# Altium schematic symbol library ic-mcu.SchLib: 24 symbols
Pins are listed as number, name and electrical type; pins without a type are passive.

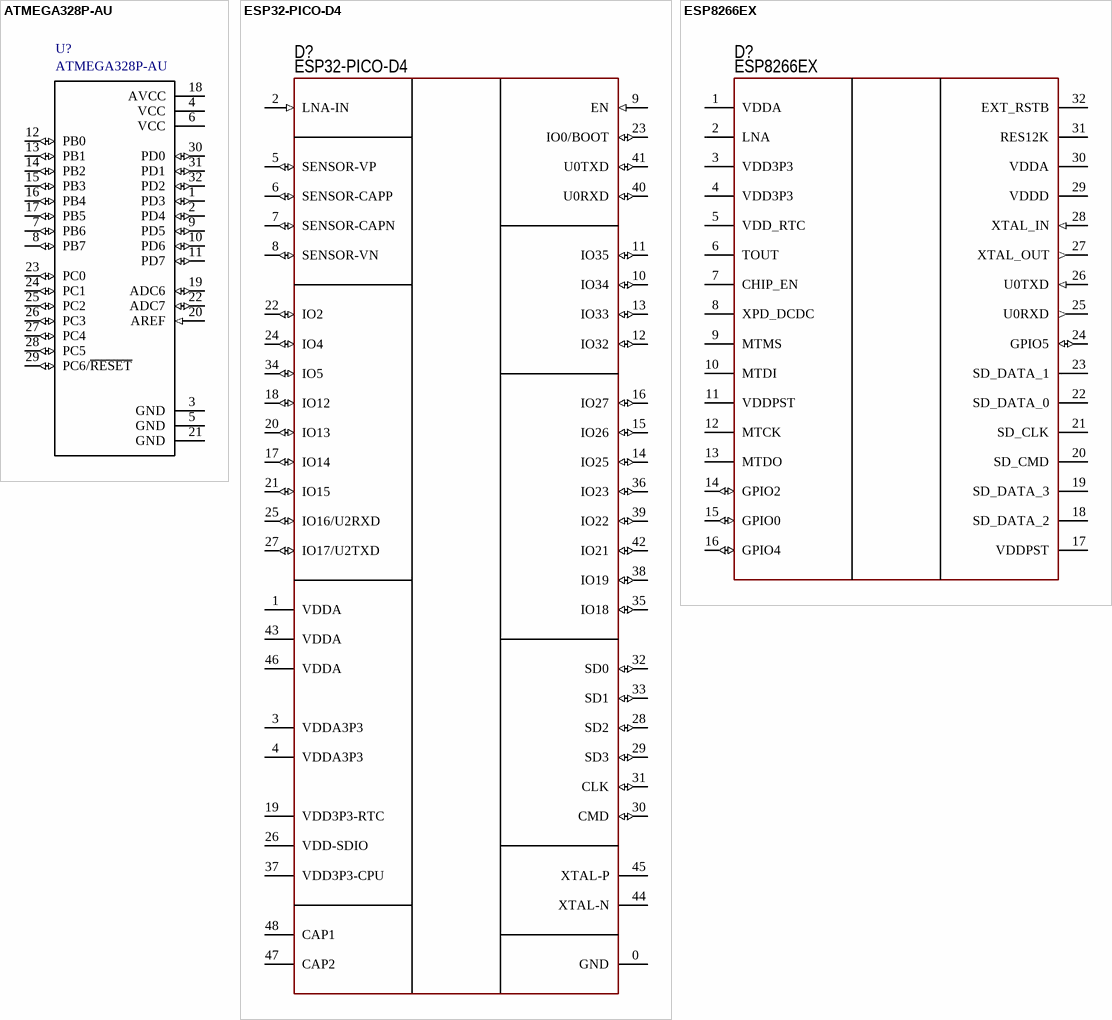
[diagram p0: symbols ATMEGA328P-AU to ESP8266EX]

## ATMEGA328P-AU
designator U?
MICROCONTROLLER MCU, 8 BIT, ATMEGA, 20MH; MICROCONTROLLER MCU, 8 BIT, ATMEGA, 20MHZ, TQFP-32; Controller Family/Series:ATmega; CPU Speed:20MHz; Program Memory Size:32KB; RAM Memory Size:2KB; No. of Pins:32Pins; MCU Case Style:TQFP; No. of I/O's:23I/O's; P; MF: Microchip Technology; MP: ATMEGA328PAU; SnapEDA_Link: https://www.snapeda.com/parts/ATMEGA328PAU/Microchip+Technology/view-part/?ref=snap; Package: None; Value: *; Check_prices: https://www.snapeda.com/parts/ATMEGA328PAU/Microchip+Technology/view-part/?ref=eda
footprint QFP80P900X900X120-32N
pins: 1 PD3 (io), 2 PD4 (io), 3 GND (power), 4 VCC (power), 5 GND (power), 6 VCC (power), 7 PB6 (io), 8 PB7 (io), 9 PD5 (io), 10 PD6 (io), 11 PD7 (io), 12 PB0 (io), 13 PB1 (io), 14 PB2 (io), 15 PB3 (io), 16 PB4 (io), 17 PB5 (io), 18 AVCC (power), 19 ADC6 (io), 20 AREF (in), 21 GND (power), 22 ADC7 (io), 23 PC0 (io), 24 PC1 (io), 25 PC2 (io), 26 PC3 (io), 27 PC4 (io), 28 PC5 (io), 29 PC6/~{RESET} (io), 30 PD0 (io), 31 PD1 (io), 32 PD2 (io)

## ESP32-PICO-D4
designator D?  PartNumber: ESP32-PICO-D4
Wi-Fi+BT; Manufacturer: Espressif Systems; ValueManufacturerPartNumber: IC RF transceiver, 802.11b/g/n + Bluetooth v4.2, 2.4GHz, 32-Bit, Xtensa LX6, 4Mb, 520KB, 2.7...3.6V, -40...+85°C, 48-LGA; Supply: 2.7...3.6V; CoreSpeed: 600 DMIPS; CoreSize: 32-Bit; MemoryROM: 4Mb; MemoryRAM: 520KB; CoreProcessor: Xtensa LX6; Frequency: 2.4GHz; TypeProtocol: 802.11b/g/n + Bluetooth v4.2; HelpURL: https://www.digikey.com/product-detail/en/espressif-systems/ESP32-PICO-D4/1904-1029-1-ND/9381738; Package: 48-LGA; ComponentType: IC RF transceiver; Temperature: -40...+85°C
footprint 48-LGA (7x7) (7x7 mm, pitch 0.5 mm, power pad)
pins: 0 GND, 1 VDDA, 2 LNA-IN (in), 3 VDDA3P3, 4 VDDA3P3, 5 SENSOR-VP (io), 6 SENSOR-CAPP (io), 7 SENSOR-CAPN (io), 8 SENSOR-VN (io), 9 EN (in), 10 IO34 (io), 11 IO35 (io), 12 IO32 (io), 13 IO33 (io), 14 IO25 (io), 15 IO26 (io), 16 IO27 (io), 17 IO14 (io), 18 IO12 (io), 19 VDD3P3-RTC, 20 IO13 (io), 21 IO15 (io), 22 IO2 (io), 23 IO0/BOOT (io), 24 IO4 (io), 25 IO16/U2RXD (io), 26 VDD-SDIO, 27 IO17/U2TXD (io), 28 SD2 (io), 29 SD3 (io), 30 CMD (io), 31 CLK (io), 32 SD0 (io), 33 SD1 (io), 34 IO5 (io), 35 IO18 (io), 36 IO23 (io), 37 VDD3P3-CPU, 38 IO19 (io), 39 IO22 (io), 40 U0RXD (io), 41 U0TXD (io), 42 IO21 (io), 43 VDDA, 44 XTAL-N, 45 XTAL-P, 46 VDDA, 47 CAP2, 48 CAP1

## ESP8266EX
designator D?  PartNumber: ESP8266EX
Wi-Fi; Manufacturer: Espressif Systems; ValueManufacturerPartNumber: IC RF transceiver, 802.11b/g/n, 2.4GHz, 32-Bit, Cortex-M3, External FLASH, 50KB, 2.5...3.6V, -40...+85°C, 32-VFQFN; Supply: 2.5...3.6V; CoreSpeed: 160 MHz; CoreSize: 32-Bit; MemoryROM: External FLASH; MemoryRAM: 50KB; CoreProcessor: Cortex-M3; Frequency: 2.4GHz; TypeProtocol: 802.11b/g/n; HelpURL: https://www.digikey.com/product-detail/en/espressif-systems/ESP8266EX/1904-1001-1-ND/8028408; Package: 32-VFQFN; ComponentType: IC RF transceiver; Temperature: -40...+85°C
footprint 32-QFN (5x5 mm, pitch 0.5 mm, power pad)
pins: 1 VDDA, 2 LNA, 3 VDD3P3, 4 VDD3P3, 5 VDD_RTC, 6 TOUT, 7 CHIP_EN, 8 XPD_DCDC, 9 MTMS, 10 MTDI, 11 VDDPST, 12 MTCK, 13 MTDO, 14 GPIO2 (io), 15 GPIO0 (io), 16 GPIO4 (io), 17 VDDPST, 18 SD_DATA_2, 19 SD_DATA_3, 20 SD_CMD, 21 SD_CLK, 22 SD_DATA_0, 23 SD_DATA_1, 24 GPIO5 (io), 25 U0RXD (out), 26 U0TXD (in), 27 XTAL_OUT (out), 28 XTAL_IN (in), 29 VDDD, 30 VDDA, 31 RES12K, 32 EXT_RSTB

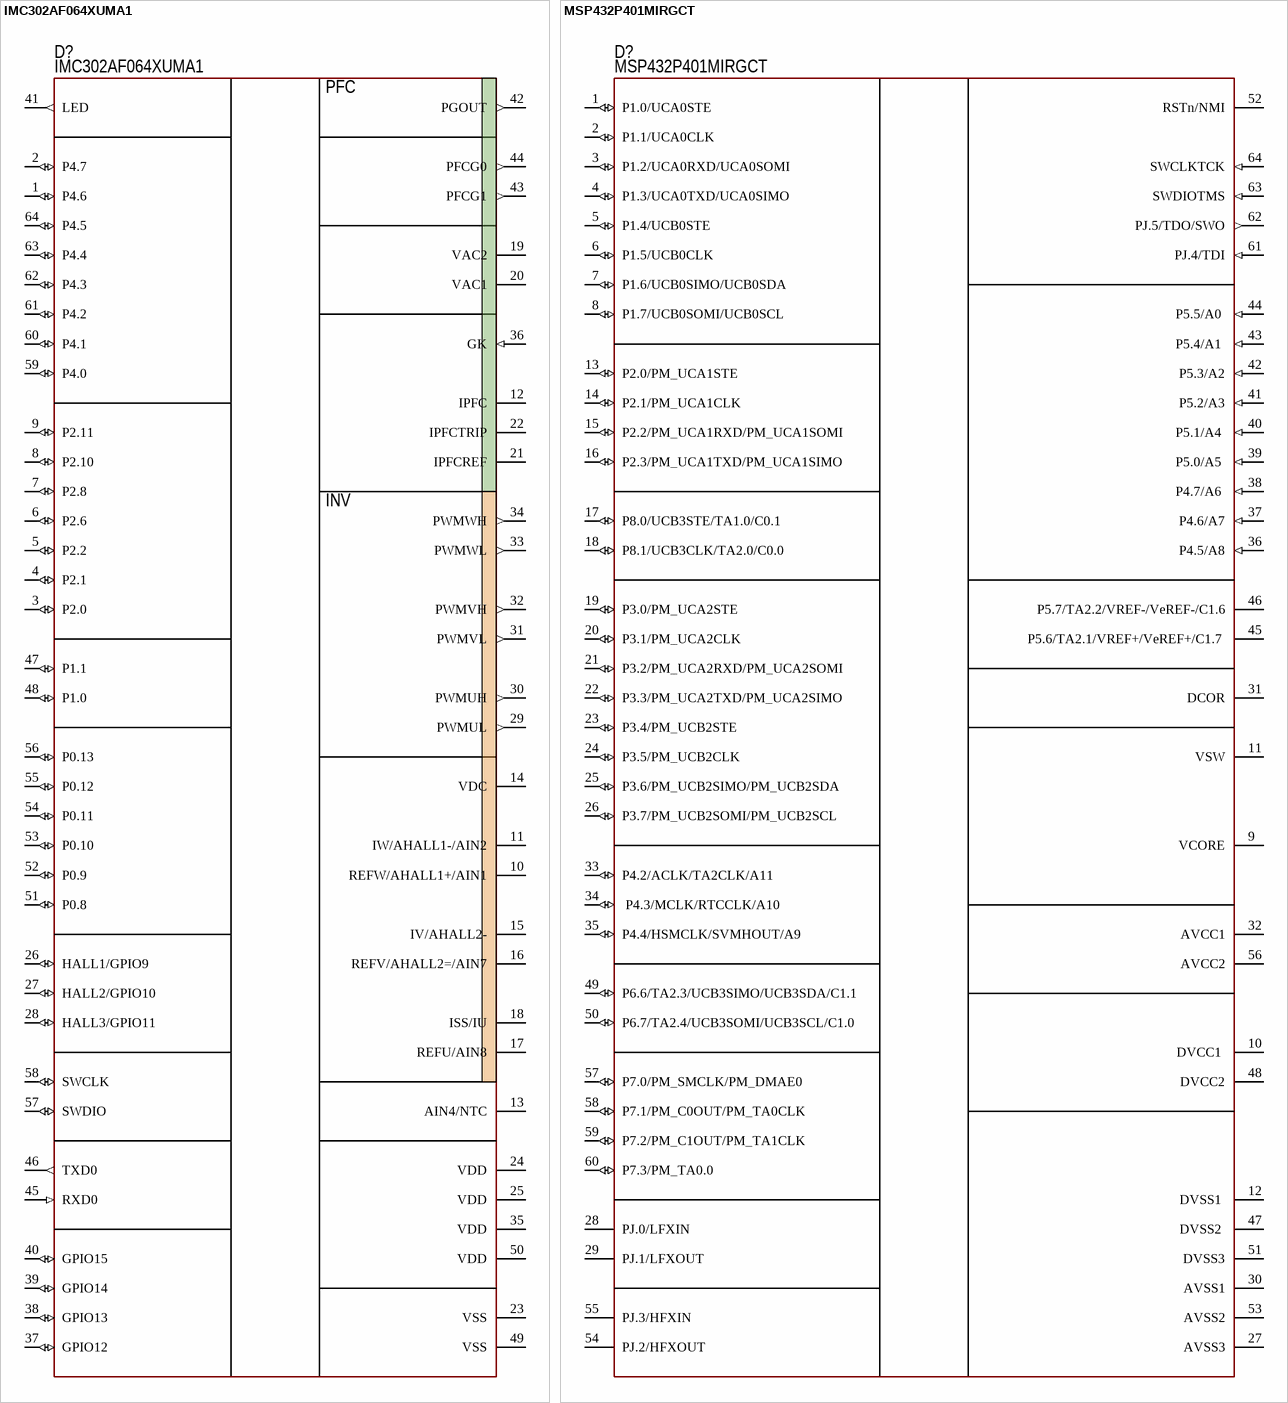
[diagram p1: symbols IMC302AF064XUMA1 to MSP432P401MIRGCT]

## IMC302AF064XUMA1
designator D?  PartNumber: IMC302AF064XUMA1
Cortex-M4; Manufacturer: Infineon; ValueManufacturerPartNumber: IC microcontroller, 32-Bit, Cortex-M0, 96MHz, 128KB, 16KB, 2.7...5.5V, -40...+85°C, LQFP-64; Supply: 2.7...5.5V; Speed: 96MHz; CoreSize: 32-Bit; MemoryROM: 128KB; MemoryRAM: 16KB; CoreProcessor: Cortex-M0; HelpURL: https://ru.mouser.com/ProductDetail/STMicroelectronics/STM32G474VET6?qs=sGAEpiMZZMuoKKEcg8mMKJ29ob8kKavQypc1s7YBx7CUDd%252BMTMV0Hg%3D%3D; Package: LQFP-64; ComponentType: IC microcontroller; Temperature: -40...+85°C
footprint 64-LQFP (Thin QFP, 64-Leads, Body 10x10mm, Pitch 0.5mm, IPC Medium Density)
pins: 1 P4.6 (io), 2 P4.7 (io), 3 P2.0 (io), 4 P2.1 (io), 5 P2.2 (io), 6 P2.6 (io), 7 P2.8 (io), 8 P2.10 (io), 9 P2.11 (io), 10 REFW/AHALL1+/AIN1, 11 IW/AHALL1-/AIN2, 12 IPFC, 13 AIN4/NTC, 14 VDC, 15 IV/AHALL2-, 16 REFV/AHALL2=/AIN7, 17 REFU/AIN8, 18 ISS/IU, 19 VAC2, 20 VAC1, 21 IPFCREF, 22 IPFCTRIP, 23 VSS, 24 VDD, 25 VDD, 26 HALL1/GPIO9 (io), 27 HALL2/GPIO10 (io), 28 HALL3/GPIO11 (io), 29 PWMUL (out), 30 PWMUH (out), 31 PWMVL (out), 32 PWMVH (out), 33 PWMWL (out), 34 PWMWH (out), 35 VDD, 36 GK (in), 37 GPIO12 (io), 38 GPIO13 (io), 39 GPIO14 (io), 40 GPIO15 (io), 41 LED (out), 42 PGOUT (out), 43 PFCG1 (out), 44 PFCG0 (out), 45 RXD0 (in), 46 TXD0 (out), 47 P1.1 (io), 48 P1.0 (io), 49 VSS, 50 VDD, 51 P0.8 (io), 52 P0.9 (io), 53 P0.10 (io), 54 P0.11 (io), 55 P0.12 (io), 56 P0.13 (io), 57 SWDIO (io), 58 SWCLK (io), 59 P4.0 (io), 60 P4.1 (io), 61 P4.2 (io), 62 P4.3 (io), 63 P4.4 (io), 64 P4.5 (io)
text: PFC; INV

## MSP432P401MIRGCT
designator D?  PartNumber: MSP432P401MIRGCT
Cortex-M4F; Manufacturer: STMicroelectronics; ValueManufacturerPartNumber: IC microcontroller, 32-Bit, Cortex-M4F, 48MHz, 128KB, 32KB, 2...3.6V, -40...+85°C, 64-VFQFN; Supply: 2...3.6V; Speed: 48MHz; CoreSize: 32-Bit; MemoryROM: 128KB; MemoryRAM: 32KB; HelpURL: https://www.digikey.com/product-detail/en/texas-instruments/MSP432P401MIRGCT/296-45486-1-ND/6821077; Package: 64-VFQFN; ComponentType: IC microcontroller; Temperature: -40...+85°C; CoreProcessor: Cortex-M4F
footprint 64-QFN (9x9 mm, pitch 0.5 mm, power pad)
pins: 1 P1.0/UCA0STE  (io), 2 P1.1/UCA0CLK  (io), 3 P1.2/UCA0RXD/UCA0SOMI  (io), 4 P1.3/UCA0TXD/UCA0SIMO (io), 5 P1.4/UCB0STE (io), 6 P1.5/UCB0CLK  (io), 7 P1.6/UCB0SIMO/UCB0SDA (io), 8 P1.7/UCB0SOMI/UCB0SCL (io), 9 VCORE (power), 10 DVCC1  (power), 11 VSW (power), 12 DVSS1  (power), 13 P2.0/PM_UCA1STE (io), 14 P2.1/PM_UCA1CLK  (io), 15 P2.2/PM_UCA1RXD/PM_UCA1SOMI  (io), 16 P2.3/PM_UCA1TXD/PM_UCA1SIMO (io), 17 P8.0/UCB3STE/TA1.0/C0.1 (io), 18 P8.1/UCB3CLK/TA2.0/C0.0 (io), 19 P3.0/PM_UCA2STE (io), 20 P3.1/PM_UCA2CLK (io), 21 P3.2/PM_UCA2RXD/PM_UCA2SOMI (io), 22 P3.3/PM_UCA2TXD/PM_UCA2SIMO (io), 23 P3.4/PM_UCB2STE (io), 24 P3.5/PM_UCB2CLK (io), 25 P3.6/PM_UCB2SIMO/PM_UCB2SDA (io), 26 P3.7/PM_UCB2SOMI/PM_UCB2SCL (io), 27 AVSS3 (power), 28 PJ.0/LFXIN, 29 PJ.1/LFXOUT, 30 AVSS1 (power), 31 DCOR (power), 32 AVCC1 (power), 33 P4.2/ACLK/TA2CLK/A11  (io), 34  P4.3/MCLK/RTCCLK/A10  (io), 35 P4.4/HSMCLK/SVMHOUT/A9 (io), 36 P4.5/A8 (in), 37 P4.6/A7 (in), 38 P4.7/A6  (in), 39 P5.0/A5  (in), 40  P5.1/A4  (in), 41 P5.2/A3 (in), 42 P5.3/A2 (in), 43  P5.4/A1  (in), 44 P5.5/A0  (in), 45 P5.6/TA2.1/VREF+/VeREF+/C1.7  (power), 46 P5.7/TA2.2/VREF-/VeREF-/C1.6 (power), 47 DVSS2  (power), 48 DVCC2 (power), 49 P6.6/TA2.3/UCB3SIMO/UCB3SDA/C1.1 (io), 50 P6.7/TA2.4/UCB3SOMI/UCB3SCL/C1.0 (io), 51 DVSS3 (power), 52 RSTn/NMI, 53 AVSS2 (power), 54 PJ.2/HFXOUT, 55 PJ.3/HFXIN, 56 AVCC2 (power), 57 P7.0/PM_SMCLK/PM_DMAE0 (io), 58 P7.1/PM_C0OUT/PM_TA0CLK (io), 59 P7.2/PM_C1OUT/PM_TA1CLK (io), 60 P7.3/PM_TA0.0 (io), 61 PJ.4/TDI (in), 62 PJ.5/TDO/SWO (out), 63 SWDIOTMS (in), 64 SWCLKTCK (in)

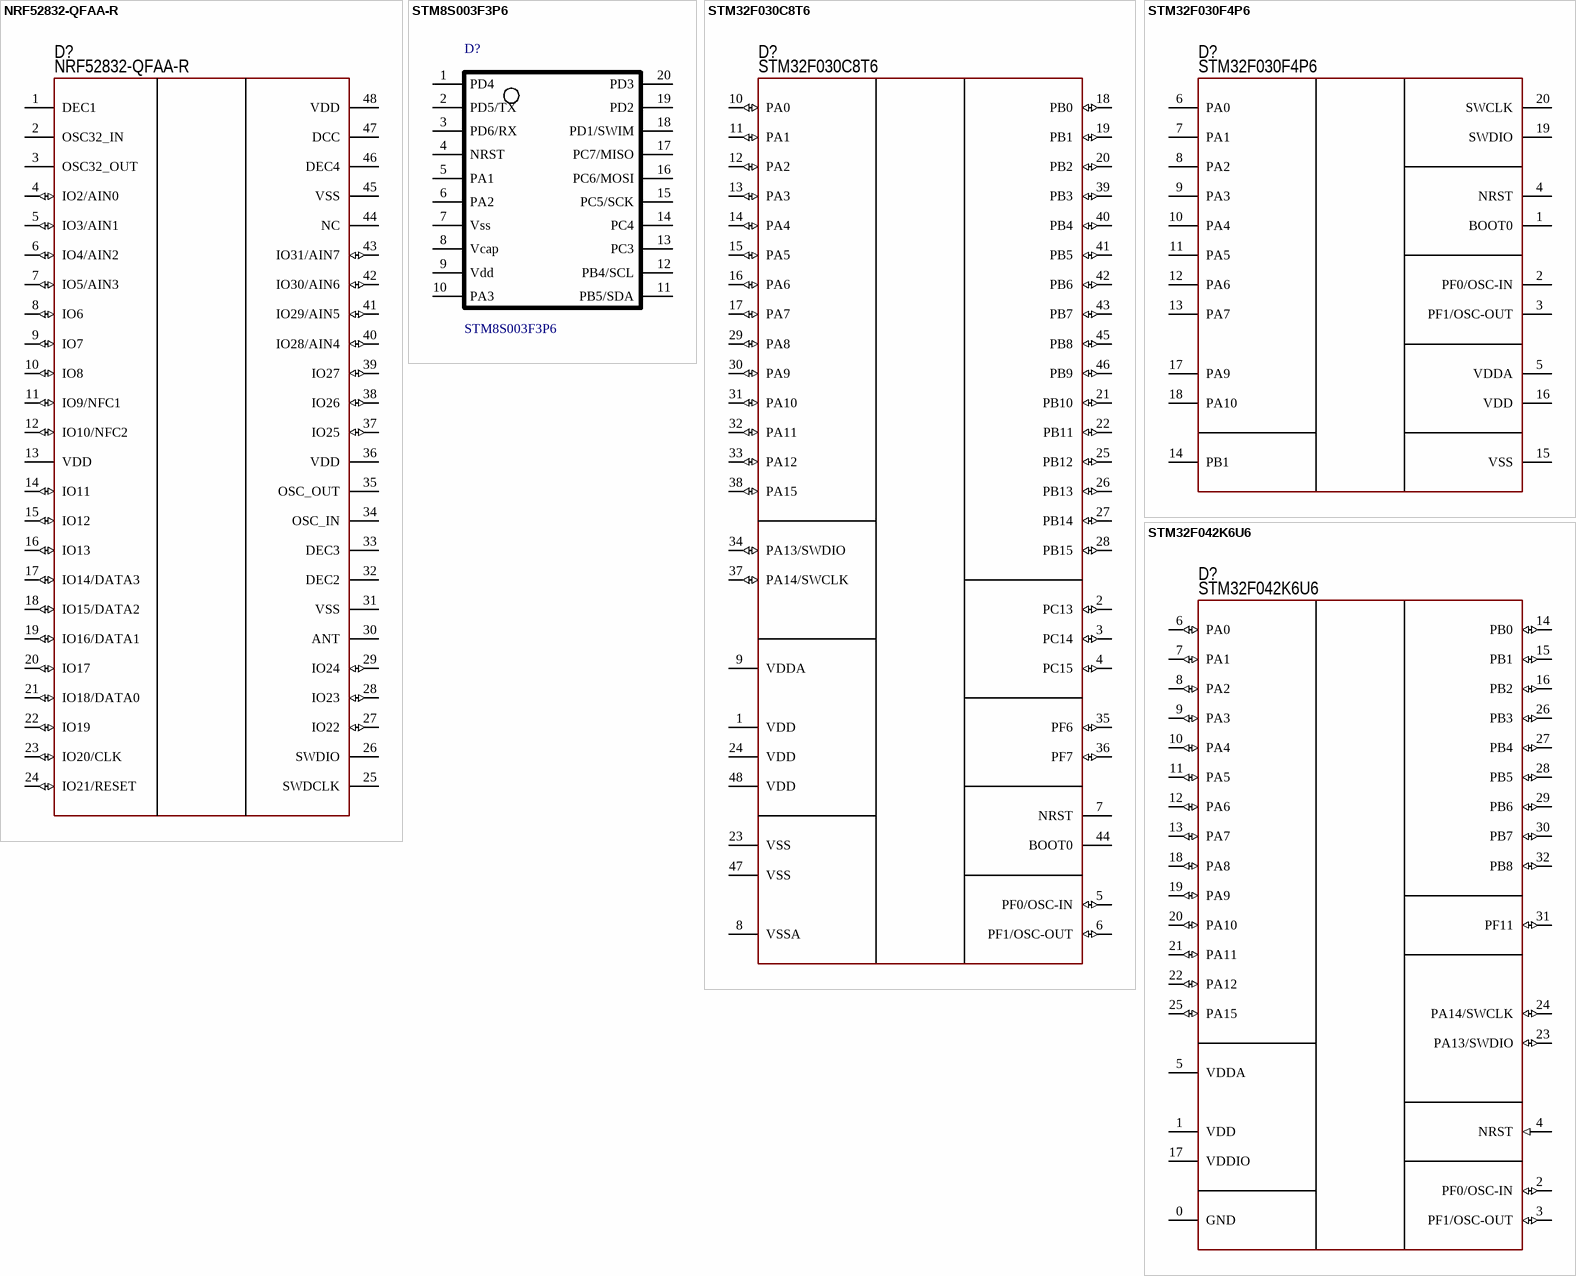
[diagram p2: symbols NRF52832-QFAA-R to STM32F042K6U6]

## NRF52832-QFAA-R
designator D?  PartNumber: NRF52832-QFAA-R
BLE; Manufacturer: Nordic Semiconductor; ValueManufacturerPartNumber: IC RF transceiver, 2.4 GHz (BLE v4.1), 32-Bit, Cortex-M4, 64 MHz, 512KB, 64KB, 1.7...3.6V, -40...+85°C, 48-VFQFN; Supply: 1.7...3.6V; CoreSpeed: 64 MHz; CoreSize: 32-Bit; MemoryROM: 512KB; MemoryRAM: 64KB; CoreProcessor: Cortex-M4; Frequency: 2.4 GHz (BLE v4.1); HelpURL: https://www.digikey.com/product-detail/en/nordic-semiconductor-asa/NRF52832-QFAA-R/1490-1052-1-ND/5428660; Package: 48-VFQFN; ComponentType: IC RF transceiver; Temperature: -40...+85°C
footprint 48-QFN (6x6) (6x6 mm, pitch 0.4 mm, power pad)
pins: 1 DEC1, 2 OSC32_IN, 3 OSC32_OUT, 4 IO2/AIN0 (io), 5 IO3/AIN1 (io), 6 IO4/AIN2 (io), 7 IO5/AIN3 (io), 8 IO6 (io), 9 IO7 (io), 10 IO8 (io), 11 IO9/NFC1 (io), 12 IO10/NFC2 (io), 13 VDD, 14 IO11 (io), 15 IO12 (io), 16 IO13 (io), 17 IO14/DATA3 (io), 18 IO15/DATA2 (io), 19 IO16/DATA1 (io), 20 IO17 (io), 21 IO18/DATA0 (io), 22 IO19 (io), 23 IO20/CLK (io), 24 IO21/RESET (io), 25 SWDCLK, 26 SWDIO, 27 IO22 (io), 28 IO23 (io), 29 IO24 (io), 30 ANT, 31 VSS, 32 DEC2, 33 DEC3, 34 OSC_IN, 35 OSC_OUT, 36 VDD, 37 IO25 (io), 38 IO26 (io), 39 IO27 (io), 40 IO28/AIN4 (io), 41 IO29/AIN5 (io), 42 IO30/AIN6 (io), 43 IO31/AIN7 (io), 44 NC, 45 VSS, 46 DEC4, 47 DCC, 48 VDD

## STM8S003F3P6
designator D?
footprint TSSOP-20
pins: 1 PD4, 2 PD5/TX, 3 PD6/RX, 4 NRST, 5 PA1, 6 PA2, 7 Vss, 8 Vcap, 9 Vdd, 10 PA3, 11 PB5/SDA, 12 PB4/SCL, 13 PC3, 14 PC4, 15 PC5/SCK, 16 PC6/MOSI, 17 PC7/MISO, 18 PD1/SWIM, 19 PD2, 20 PD3

## STM32F030C8T6
designator D?  PartNumber: STM32F030C8T6
Cortex-M0; Manufacturer: STMicroelectronics; ValueManufacturerPartNumber: IC microcontroller, 32-Bit, Cortex-M0, 48MHz, 64KB, 8KB, 2.4...3.6V, -40...+85°C, 48-LQFP; Supply: 2.4...3.6V; Speed: 48MHz; CoreSize: 32-Bit; MemoryROM: 64KB; MemoryRAM: 8KB; HelpURL: https://www.digikey.com/product-detail/en/stmicroelectronics/STM32F030C8T6/497-14043-ND/4357252; Package: 48-LQFP; ComponentType: IC microcontroller; Temperature: -40...+85°C; CoreProcessor: Cortex-M0
footprint 48-LQFP (QFP, 48-Leads, Body 7x7mm, Pitch 0.5mm, IPC Medium Density)
pins: 1 VDD, 2 PC13 (io), 3 PC14 (io), 4 PC15 (io), 5 PF0/OSC-IN (io), 6 PF1/OSC-OUT (io), 7 NRST, 8 VSSA, 9 VDDA, 10 PA0 (io), 11 PA1 (io), 12 PA2 (io), 13 PA3 (io), 14 PA4 (io), 15 PA5 (io), 16 PA6 (io), 17 PA7 (io), 18 PB0 (io), 19 PB1 (io), 20 PB2 (io), 21 PB10 (io), 22 PB11 (io), 23 VSS, 24 VDD, 25 PB12 (io), 26 PB13 (io), 27 PB14 (io), 28 PB15 (io), 29 PA8 (io), 30 PA9 (io), 31 PA10 (io), 32 PA11 (io), 33 PA12 (io), 34 PA13/SWDIO (io), 35 PF6 (io), 36 PF7 (io), 37 PA14/SWCLK (io), 38 PA15 (io), 39 PB3 (io), 40 PB4 (io), 41 PB5 (io), 42 PB6 (io), 43 PB7 (io), 44 BOOT0, 45 PB8 (io), 46 PB9 (io), 47 VSS, 48 VDD

## STM32F030F4P6
designator D?  PartNumber: STM32F030F4P6
Cortex-M0; Manufacturer: STMicroelectronics; ValueManufacturerPartNumber: IC microcontroller, 32-Bit, Cortex-M0, 48MHz, 16KB, 4KB, 2.4...3.6V, -40...+85°C, 20-TSSOP; Supply: 2.4...3.6V; Speed: 48MHz; CoreSize: 32-Bit; MemoryROM: 16KB; MemoryRAM: 4KB; HelpURL: https://www.digikey.com/product-detail/en/stmicroelectronics/STM32F030F4P6TR/497-17333-1-ND/7650385; Package: 20-TSSOP; ComponentType: IC microcontroller; Temperature: -40...+85°C; CoreProcessor: Cortex-M0
footprint 20-TSSOP (pitch 0.65 mm)
pins: 1 BOOT0, 2 PF0/OSC-IN, 3 PF1/OSC-OUT, 4 NRST, 5 VDDA, 6 PA0, 7 PA1, 8 PA2, 9 PA3, 10 PA4, 11 PA5, 12 PA6, 13 PA7, 14 PB1, 15 VSS, 16 VDD, 17 PA9, 18 PA10, 19 SWDIO, 20 SWCLK

## STM32F042K6U6
designator D?  PartNumber: STM32F042K6U6
Cortex-M0; Manufacturer: STMicroelectronics; ValueManufacturerPartNumber: IC microcontroller, 32-Bit, Cortex-M0, 48MHz, 32KB, 6KB, 1.65...3.6V, -40...+85°C, 32-UFQFPN; Supply: 1.65...3.6V; Speed: 48MHz; CoreSize: 32-Bit; MemoryROM: 32KB; MemoryRAM: 6KB; HelpURL: https://www.digikey.com/product-detail/en/stmicroelectronics/STM32F042K6U6/497-17346-ND/5268195; Package: 32-UFQFPN; ComponentType: IC microcontroller; Temperature: -40...+85°C; CoreProcessor: Cortex-M0
footprint 32-QFN (5x5 mm, pitch 0.5 mm, power pad)
pins: 0 GND, 1 VDD, 2 PF0/OSC-IN (io), 3 PF1/OSC-OUT (io), 4 NRST (in), 5 VDDA, 6 PA0 (io), 7 PA1 (io), 8 PA2 (io), 9 PA3 (io), 10 PA4 (io), 11 PA5 (io), 12 PA6 (io), 13 PA7 (io), 14 PB0 (io), 15 PB1 (io), 16 PB2 (io), 17 VDDIO, 18 PA8 (io), 19 PA9 (io), 20 PA10 (io), 21 PA11 (io), 22 PA12 (io), 23 PA13/SWDIO (io), 24 PA14/SWCLK (io), 25 PA15 (io), 26 PB3 (io), 27 PB4 (io), 28 PB5 (io), 29 PB6 (io), 30 PB7 (io), 31 PF11 (io), 32 PB8 (io)

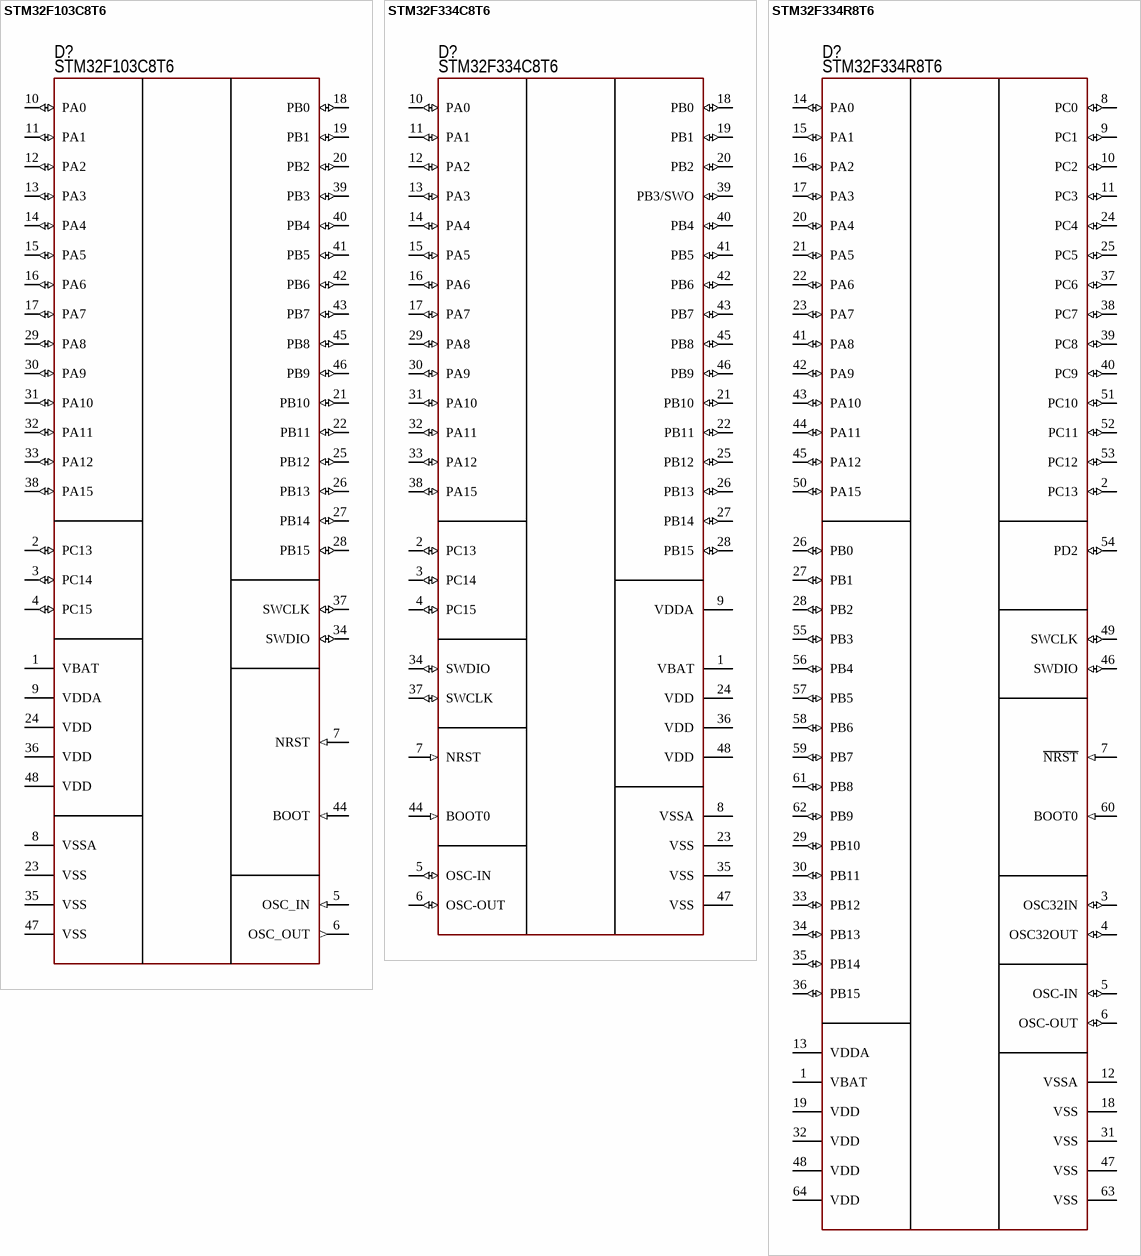
[diagram p3: symbols STM32F103C8T6 to STM32F334R8T6]

## STM32F103C8T6
designator D?  PartNumber: STM32F103C8T6
Cortex-M3; Manufacturer: STMicroelectronics; ValueManufacturerPartNumber: IC microcontroller, 32-Bit, Cortex-M3, 72MHz, 64KB, 20KB, 2...3.6V, -40...+85°C, 48-LQFP; Supply: 2...3.6V; Speed: 72MHz; CoreSize: 32-Bit; MemoryROM: 64KB; MemoryRAM: 20KB; HelpURL: https://www.digikey.com/product-detail/en/stmicroelectronics/STM32F103C8T6TR/497-17666-1-ND/7804402; Package: 48-LQFP; ComponentType: IC microcontroller; Temperature: -40...+85°C; CoreProcessor: Cortex-M3
footprint 48-LQFP (QFP, 48-Leads, Body 7x7mm, Pitch 0.5mm, IPC Medium Density)
pins: 1 VBAT (power), 2 PC13 (io), 3 PC14 (io), 4 PC15 (io), 5 OSC_IN (in), 6 OSC_OUT (out), 7 NRST (in), 8 VSSA (power), 9 VDDA (power), 10 PA0 (io), 11 PA1 (io), 12 PA2 (io), 13 PA3 (io), 14 PA4 (io), 15 PA5 (io), 16 PA6 (io), 17 PA7 (io), 18 PB0 (io), 19 PB1 (io), 20 PB2 (io), 21 PB10 (io), 22 PB11 (io), 23 VSS (power), 24 VDD (power), 25 PB12 (io), 26 PB13 (io), 27 PB14 (io), 28 PB15 (io), 29 PA8 (io), 30 PA9 (io), 31 PA10 (io), 32 PA11 (io), 33 PA12 (io), 34 SWDIO (io), 35 VSS (power), 36 VDD (power), 37 SWCLK (io), 38 PA15 (io), 39 PB3 (io), 40 PB4 (io), 41 PB5 (io), 42 PB6 (io), 43 PB7 (io), 44 BOOT (in), 45 PB8 (io), 46 PB9 (io), 47 VSS (power), 48 VDD (power)

## STM32F334C8T6
designator D?  PartNumber: STM32F334C8T6
Cortex-M4; Manufacturer: STMicroelectronics; ValueManufacturerPartNumber: IC microcontroller, 32-Bit, Cortex-M4, 72MHz, 64KB, 12KB, 2...3.6V, -40...+85°C, 48-LQFP; Supply: 2...3.6V; Speed: 72MHz; CoreSize: 32-Bit; MemoryROM: 64KB; MemoryRAM: 12KB; HelpURL: https://www.digikey.com/products/en?keywords=STM32F334C8T6; Package: 48-LQFP; ComponentType: IC microcontroller; Temperature: -40...+85°C; CoreProcessor: Cortex-M4
footprint 48-LQFP (QFP, 48-Leads, Body 7x7mm, Pitch 0.5mm, IPC Medium Density)
pins: 1 VBAT, 2 PC13 (io), 3 PC14 (io), 4 PC15 (io), 5 OSC-IN (io), 6 OSC-OUT (io), 7 NRST (in), 8 VSSA, 9 VDDA, 10 PA0 (io), 11 PA1 (io), 12 PA2 (io), 13 PA3 (io), 14 PA4 (io), 15 PA5 (io), 16 PA6 (io), 17 PA7 (io), 18 PB0 (io), 19 PB1 (io), 20 PB2 (io), 21 PB10 (io), 22 PB11 (io), 23 VSS, 24 VDD, 25 PB12 (io), 26 PB13 (io), 27 PB14 (io), 28 PB15 (io), 29 PA8 (io), 30 PA9 (io), 31 PA10 (io), 32 PA11 (io), 33 PA12 (io), 34 SWDIO (io), 35 VSS, 36 VDD, 37 SWCLK (io), 38 PA15 (io), 39 PB3/SWO (io), 40 PB4 (io), 41 PB5 (io), 42 PB6 (io), 43 PB7 (io), 44 BOOT0 (in), 45 PB8 (io), 46 PB9 (io), 47 VSS, 48 VDD

## STM32F334R8T6
designator D?  PartNumber: STM32F334R8T6
Cortex-M4; Manufacturer: STMicroelectronics; ValueManufacturerPartNumber: IC microcontroller, 32-Bit, Cortex-M4, 72MHz, 64KB, 12KB, 2...3.6V, -40...+85°C, 64-LQFP; Supply: 2...3.6V; Speed: 72MHz; CoreSize: 32-Bit; MemoryROM: 64KB; MemoryRAM: 12KB; HelpURL: https://www.digikey.com/product-detail/en/stmicroelectronics/STM32F334R8T6/497-14955-ND/4989177; Package: 64-LQFP; ComponentType: IC microcontroller; Temperature: -40...+85°C; CoreProcessor: Cortex-M4
footprint 64-LQFP (Thin QFP, 64-Leads, Body 10x10mm, Pitch 0.5mm, IPC Medium Density)
pins: 1 VBAT (power), 2 PC13 (io), 3 OSC32IN (io), 4 OSC32OUT (io), 5 OSC-IN (io), 6 OSC-OUT (io), 7 ~{NRST} (in), 8 PC0 (io), 9 PC1 (io), 10 PC2 (io), 11 PC3 (io), 12 VSSA (power), 13 VDDA (power), 14 PA0 (io), 15 PA1 (io), 16 PA2 (io), 17 PA3 (io), 18 VSS (power), 19 VDD (power), 20 PA4 (io), 21 PA5 (io), 22 PA6 (io), 23 PA7 (io), 24 PC4 (io), 25 PC5 (io), 26 PB0 (io), 27 PB1 (io), 28 PB2 (io), 29 PB10 (io), 30 PB11 (io), 31 VSS (power), 32 VDD (power), 33 PB12 (io), 34 PB13 (io), 35 PB14 (io), 36 PB15 (io), 37 PC6 (io), 38 PC7 (io), 39 PC8 (io), 40 PC9 (io), 41 PA8 (io), 42 PA9 (io), 43 PA10 (io), 44 PA11 (io), 45 PA12 (io), 46 SWDIO (io), 47 VSS (power), 48 VDD (power), 49 SWCLK (io), 50 PA15 (io), 51 PC10 (io), 52 PC11 (io), 53 PC12 (io), 54 PD2 (io), 55 PB3 (io), 56 PB4 (io), 57 PB5 (io), 58 PB6 (io), 59 PB7 (io), 60 BOOT0 (in), 61 PB8 (io), 62 PB9 (io), 63 VSS (power), 64 VDD (power)

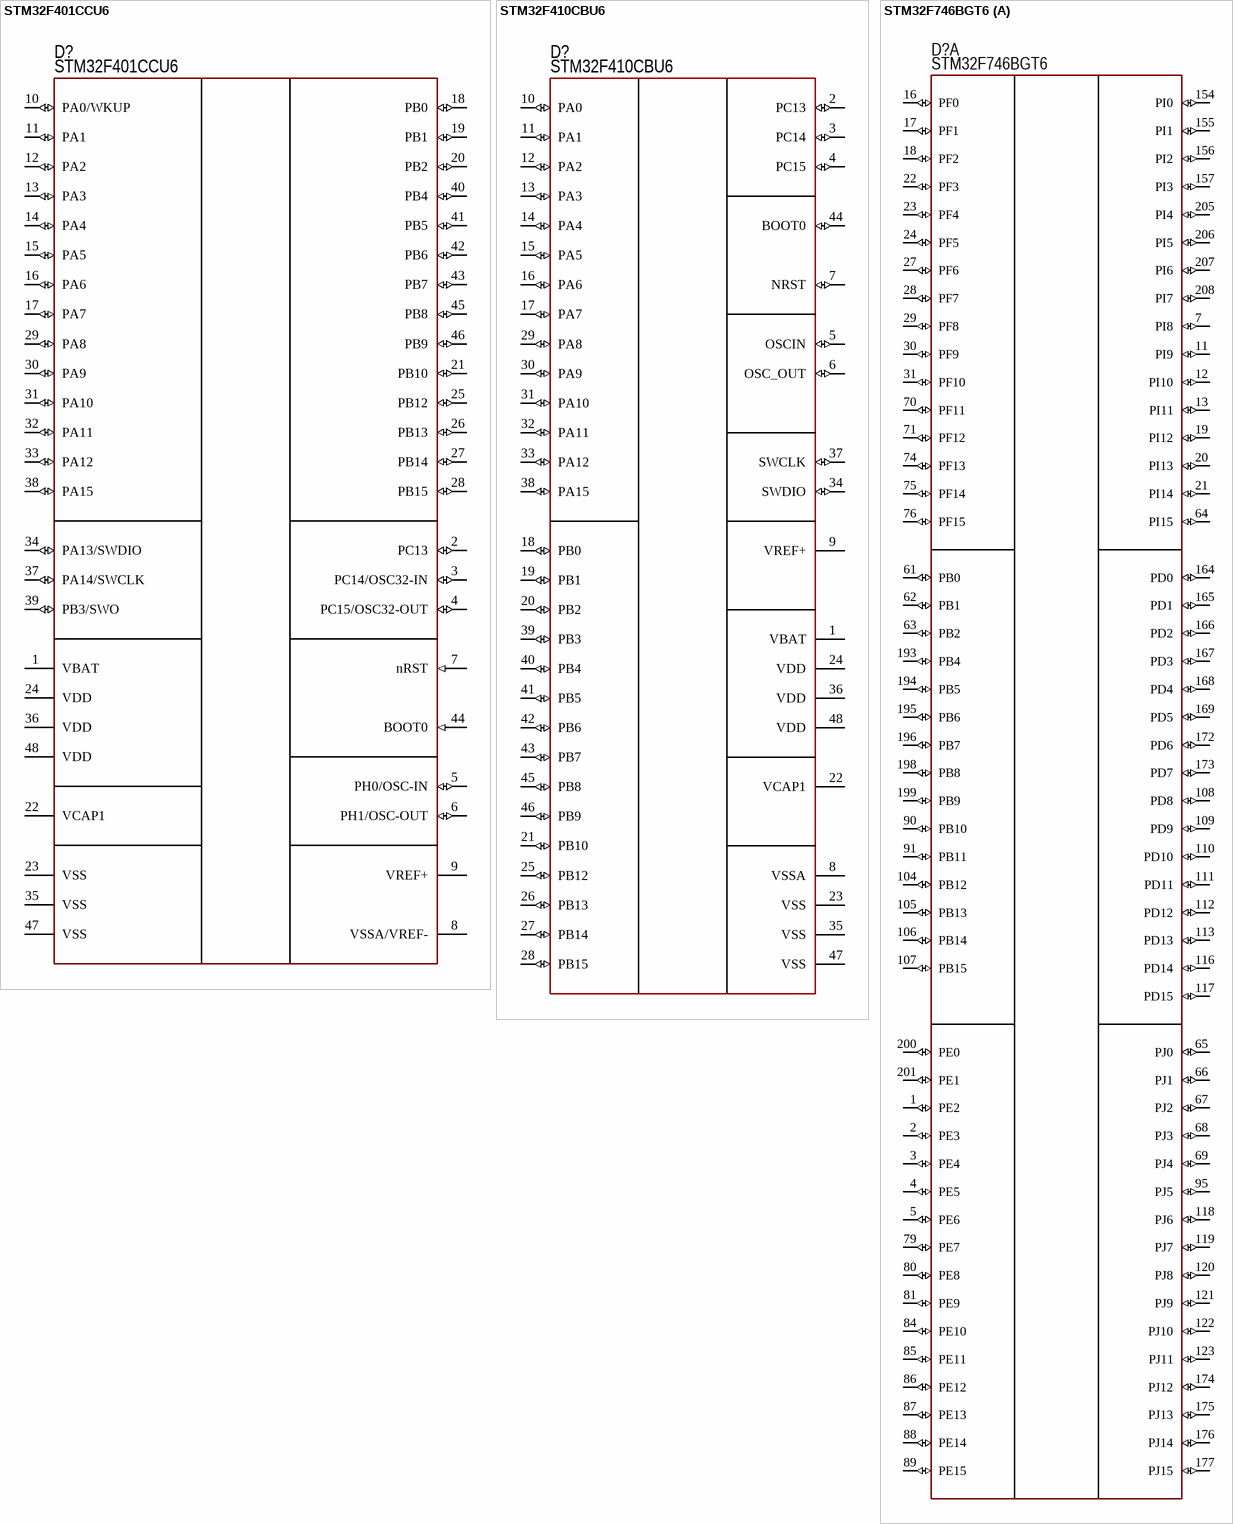
[diagram p4: symbols STM32F401CCU6 to STM32F746BGT6]

## STM32F401CCU6
designator D?  PartNumber: STM32F401CCU6
Cortex-M4; Manufacturer: STMicroelectronics; ValueManufacturerPartNumber: IC microcontroller, 32-Bit, Cortex-M4, 84MHz, 256KB, 64KB, 1.7...3.6V, -40...+85°C, 48-UFQFPN (7x7); Supply: 1.7...3.6V; Speed: 84MHz; CoreSize: 32-Bit; MemoryROM: 256KB; MemoryRAM: 64KB; HelpURL: https://www.digikey.com/en/products/detail/stmicroelectronics/STM32F401CCU6/4755971; Package: 48-UFQFPN (7x7); ComponentType: IC microcontroller; Temperature: -40...+85°C; CoreProcessor: Cortex-M4
footprint 48-QFN (7x7) (7x7 mm, pitch 0.5 mm, power pad)
pins: 1 VBAT, 2 PC13 (io), 3 PC14/OSC32-IN (io), 4 PC15/OSC32-OUT (io), 5 PH0/OSC-IN (io), 6 PH1/OSC-OUT (io), 7 nRST (in), 8 VSSA/VREF-, 9 VREF+, 10 PA0/WKUP (io), 11 PA1 (io), 12 PA2 (io), 13 PA3 (io), 14 PA4 (io), 15 PA5 (io), 16 PA6 (io), 17 PA7 (io), 18 PB0 (io), 19 PB1 (io), 20 PB2 (io), 21 PB10 (io), 22 VCAP1, 23 VSS, 24 VDD, 25 PB12 (io), 26 PB13 (io), 27 PB14 (io), 28 PB15 (io), 29 PA8 (io), 30 PA9 (io), 31 PA10 (io), 32 PA11 (io), 33 PA12 (io), 34 PA13/SWDIO (io), 35 VSS, 36 VDD, 37 PA14/SWCLK (io), 38 PA15 (io), 39 PB3/SWO (io), 40 PB4 (io), 41 PB5 (io), 42 PB6 (io), 43 PB7 (io), 44 BOOT0 (in), 45 PB8 (io), 46 PB9 (io), 47 VSS, 48 VDD

## STM32F410CBU6
designator D?  PartNumber: STM32F410CBU6
Cortex-M4; Manufacturer: STMicroelectronics; ValueManufacturerPartNumber: IC microcontroller, 32-Bit, Cortex-M4, 100MHz, 128KB, 32KB, 1.7...3.6V, -40...+85°C, 48-UFQFPN; Supply: 1.7...3.6V; Speed: 100MHz; CoreSize: 32-Bit; MemoryROM: 128KB; MemoryRAM: 32KB; HelpURL: https://www.digikey.com/products/en?keywords=STM32F410CBU6; Package: 48-UFQFPN; ComponentType: IC microcontroller; Temperature: -40...+85°C; CoreProcessor: Cortex-M4
footprint 48-QFN (7x7) (7x7 mm, pitch 0.5 mm, power pad)
pins: 1 VBAT (power), 2 PC13 (io), 3 PC14 (io), 4 PC15 (io), 5 OSCIN (io), 6 OSC_OUT (io), 7 NRST (io), 8 VSSA (power), 9 VREF+ (power), 10 PA0 (io), 11 PA1 (io), 12 PA2 (io), 13 PA3 (io), 14 PA4 (io), 15 PA5 (io), 16 PA6 (io), 17 PA7 (io), 18 PB0 (io), 19 PB1 (io), 20 PB2 (io), 21 PB10 (io), 22 VCAP1 (power), 23 VSS (power), 24 VDD (power), 25 PB12 (io), 26 PB13 (io), 27 PB14 (io), 28 PB15 (io), 29 PA8 (io), 30 PA9 (io), 31 PA10 (io), 32 PA11 (io), 33 PA12 (io), 34 SWDIO (io), 35 VSS (power), 36 VDD (power), 37 SWCLK (io), 38 PA15 (io), 39 PB3 (io), 40 PB4 (io), 41 PB5 (io), 42 PB6 (io), 43 PB7 (io), 44 BOOT0 (io), 45 PB8 (io), 46 PB9 (io), 47 VSS (power), 48 VDD (power)

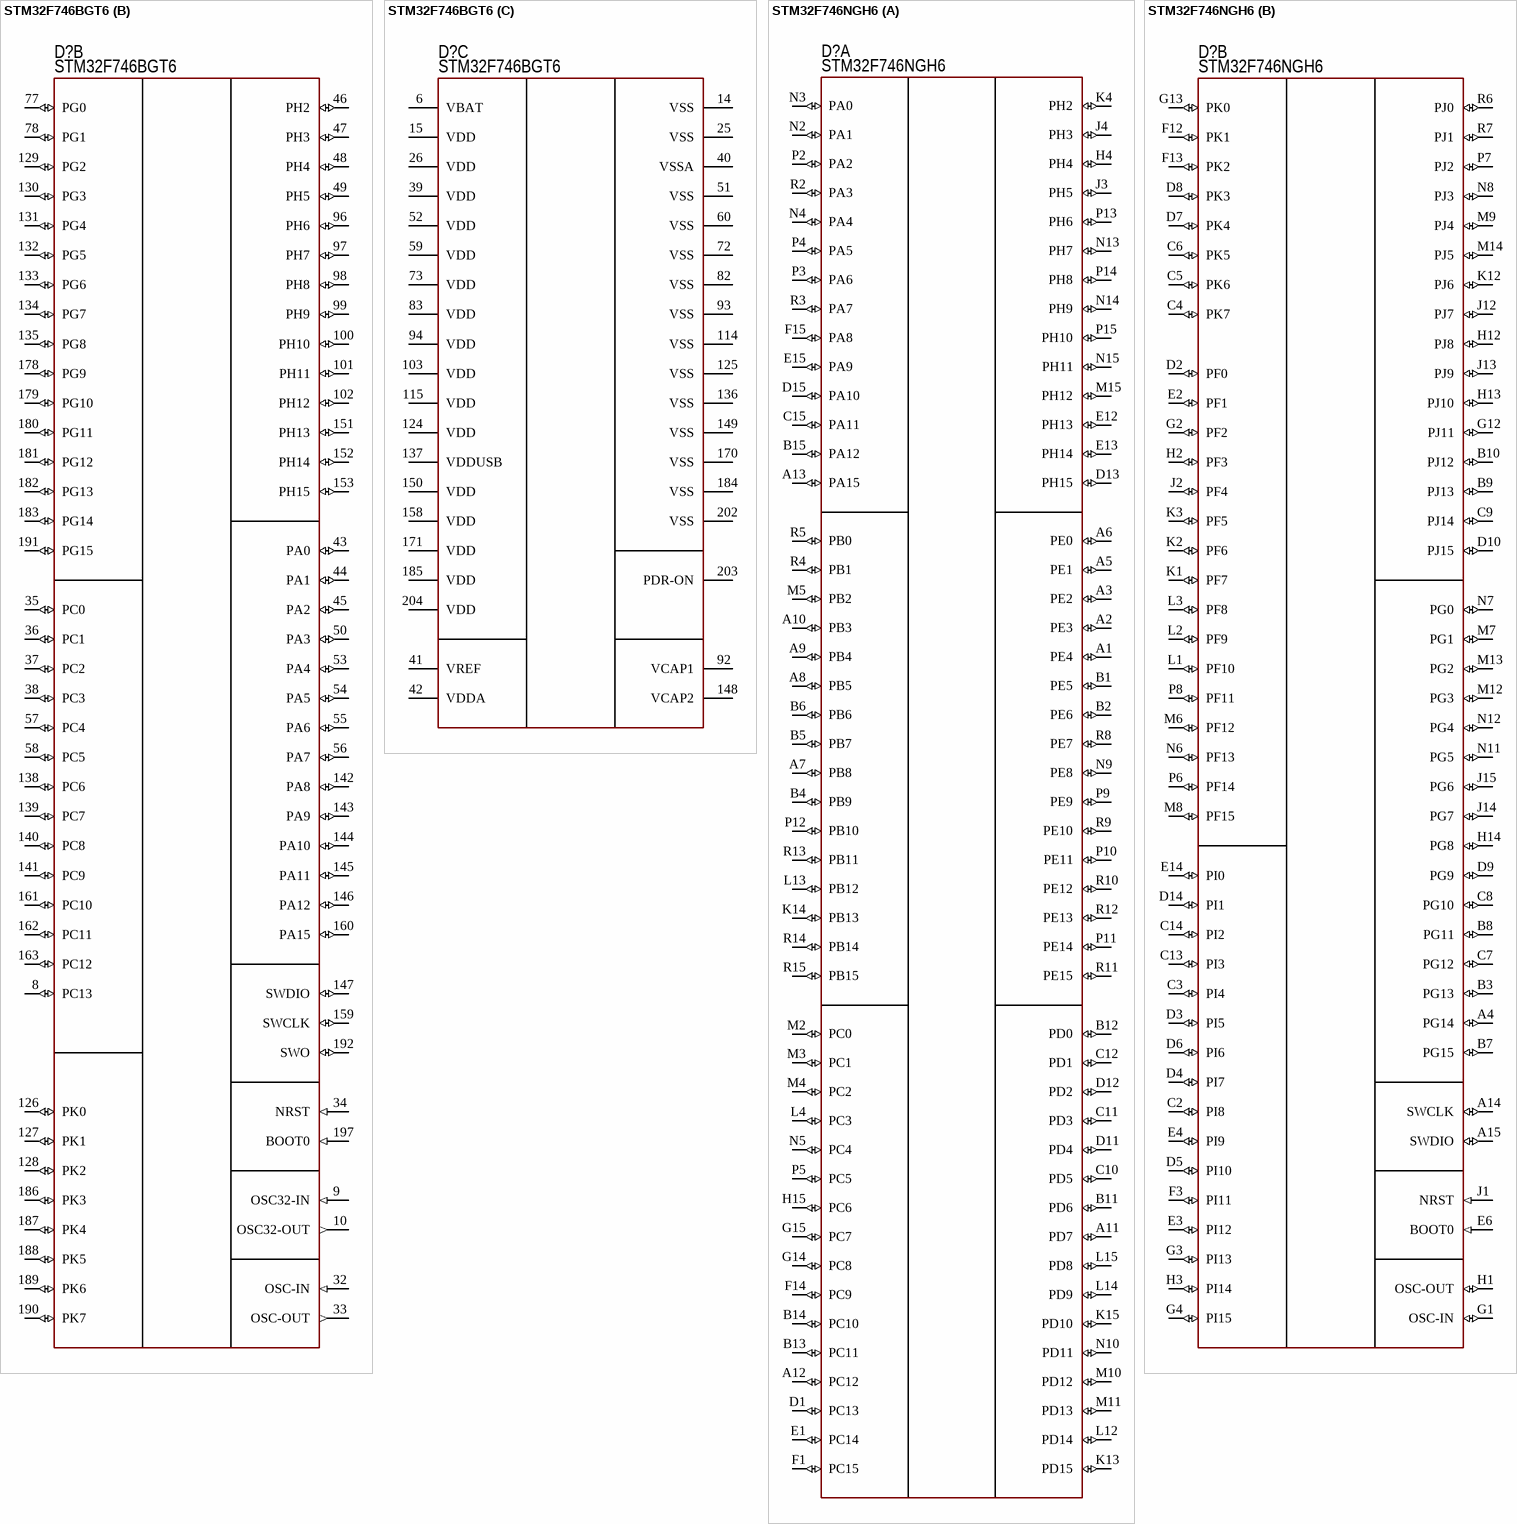
[diagram p5: symbols STM32F746BGT6 to STM32F746NGH6]

## STM32F746BGT6
designator D?  PartNumber: STM32F746BGT6
Cortex-M7; Manufacturer: STMicroelectronics; ValueManufacturerPartNumber: IC microcontroller, 32-Bit, Cortex-M7, 216MHz, 1024KB, 320KB, 1.7...3.6V, -40...+85°C, 208-LQFP; Supply: 1.7...3.6V; Speed: 216MHz; CoreSize: 32-Bit; MemoryROM: 1024KB; MemoryRAM: 320KB; HelpURL: https://www.digikey.com/products/en?keywords=STM32F746BGT6; Package: 208-LQFP; ComponentType: IC microcontroller; Temperature: -40...+85°C; CoreProcessor: Cortex-M7
footprint 208-LQFP (pitch 0.5 mm)
part A pins: 1 PE2 (io), 2 PE3 (io), 3 PE4 (io), 4 PE5 (io), 5 PE6 (io), 7 PI8 (io), 11 PI9 (io), 12 PI10 (io), 13 PI11 (io), 16 PF0 (io), 17 PF1 (io), 18 PF2 (io), 19 PI12 (io), 20 PI13 (io), 21 PI14 (io), 22 PF3 (io), 23 PF4 (io), 24 PF5 (io), 27 PF6 (io), 28 PF7 (io), 29 PF8 (io), 30 PF9 (io), 31 PF10 (io), 61 PB0 (io), 62 PB1 (io), 63 PB2 (io), 64 PI15 (io), 65 PJ0 (io), 66 PJ1 (io), 67 PJ2 (io), 68 PJ3 (io), 69 PJ4 (io), 70 PF11 (io), 71 PF12 (io), 74 PF13 (io), 75 PF14 (io), 76 PF15 (io), 79 PE7 (io), 80 PE8 (io), 81 PE9 (io), 84 PE10 (io), 85 PE11 (io), 86 PE12 (io), 87 PE13 (io), 88 PE14 (io), 89 PE15 (io), 90 PB10 (io), 91 PB11 (io), 95 PJ5 (io), 104 PB12 (io), 105 PB13 (io), 106 PB14 (io), 107 PB15 (io), 108 PD8 (io), 109 PD9 (io), 110 PD10 (io), 111 PD11 (io), 112 PD12 (io), 113 PD13 (io), 116 PD14 (io), 117 PD15 (io), 118 PJ6 (io), 119 PJ7 (io), 120 PJ8 (io), 121 PJ9 (io), 122 PJ10 (io), 123 PJ11 (io), 154 PI0 (io), 155 PI1 (io), 156 PI2 (io), 157 PI3 (io), 164 PD0 (io), 165 PD1 (io), 166 PD2 (io), 167 PD3 (io), 168 PD4 (io), 169 PD5 (io), 172 PD6 (io), 173 PD7 (io), 174 PJ12 (io), 175 PJ13 (io), 176 PJ14 (io), 177 PJ15 (io), 193 PB4 (io), 194 PB5 (io), 195 PB6 (io), 196 PB7 (io), 198 PB8 (io), 199 PB9 (io), 200 PE0 (io), 201 PE1 (io), 205 PI4 (io), 206 PI5 (io), 207 PI6 (io), 208 PI7 (io)
part B pins: 8 PC13 (io), 9 OSC32-IN (in), 10 OSC32-OUT (out), 32 OSC-IN (in), 33 OSC-OUT (out), 34 NRST (in), 35 PC0 (io), 36 PC1 (io), 37 PC2 (io), 38 PC3 (io), 43 PA0 (io), 44 PA1 (io), 45 PA2 (io), 46 PH2 (io), 47 PH3 (io), 48 PH4 (io), 49 PH5 (io), 50 PA3 (io), 53 PA4 (io), 54 PA5 (io), 55 PA6 (io), 56 PA7 (io), 57 PC4 (io), 58 PC5 (io), 77 PG0 (io), 78 PG1 (io), 96 PH6 (io), 97 PH7 (io), 98 PH8 (io), 99 PH9 (io), 100 PH10 (io), 101 PH11 (io), 102 PH12 (io), 126 PK0 (io), 127 PK1 (io), 128 PK2 (io), 129 PG2 (io), 130 PG3 (io), 131 PG4 (io), 132 PG5 (io), 133 PG6 (io), 134 PG7 (io), 135 PG8 (io), 138 PC6 (io), 139 PC7 (io), 140 PC8 (io), 141 PC9 (io), 142 PA8 (io), 143 PA9 (io), 144 PA10 (io), 145 PA11 (io), 146 PA12 (io), 147 SWDIO (io), 151 PH13 (io), 152 PH14 (io), 153 PH15 (io), 159 SWCLK (io), 160 PA15 (io), 161 PC10 (io), 162 PC11 (io), 163 PC12 (io), 178 PG9 (io), 179 PG10 (io), 180 PG11 (io), 181 PG12 (io), 182 PG13 (io), 183 PG14 (io), 186 PK3 (io), 187 PK4 (io), 188 PK5 (io), 189 PK6 (io), 190 PK7 (io), 191 PG15 (io), 192 SWO (io), 197 BOOT0 (in)
part C pins: 6 VBAT, 14 VSS, 15 VDD, 25 VSS, 26 VDD, 39 VDD, 40 VSSA, 41 VREF, 42 VDDA, 51 VSS, 52 VDD, 59 VDD, 60 VSS, 72 VSS, 73 VDD, 82 VSS, 83 VDD, 92 VCAP1, 93 VSS, 94 VDD, 103 VDD, 114 VSS, 115 VDD, 124 VDD, 125 VSS, 136 VSS, 137 VDDUSB, 148 VCAP2, 149 VSS, 150 VDD, 158 VDD, 170 VSS, 171 VDD, 184 VSS, 185 VDD, 202 VSS, 203 PDR-ON, 204 VDD

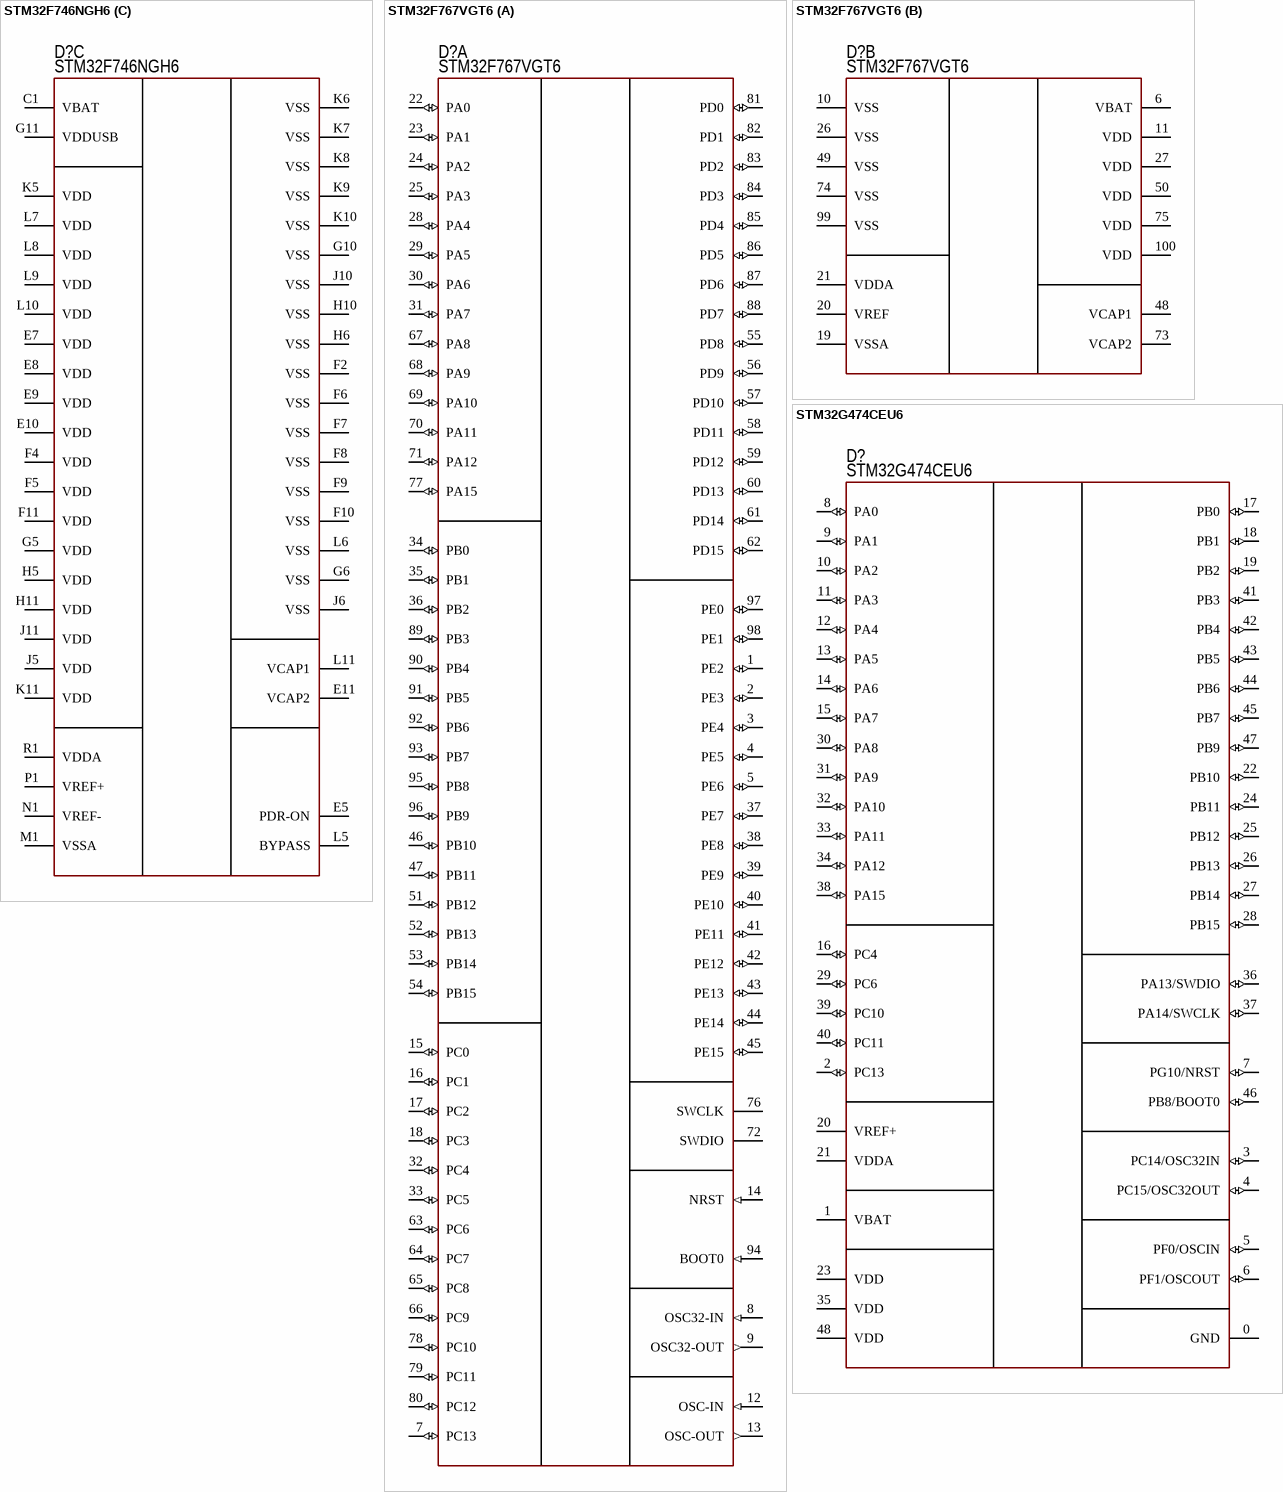
[diagram p6: symbols STM32F746NGH6 to STM32G474CEU6]

## STM32F746NGH6
designator D?  PartNumber: STM32F746NGH6
Cortex-M7; Manufacturer: STMicroelectronics; ValueManufacturerPartNumber: IC microcontroller, 32-Bit, Cortex-M7, 216MHz, 1024KB, 320KB, 1.7...3.6V, -40...+85°C, 216-TFBGA; Supply: 1.7...3.6V; Speed: 216MHz; CoreSize: 32-Bit; MemoryROM: 1024KB; MemoryRAM: 320KB; HelpURL: https://www.digikey.com/product-detail/en/stmicroelectronics/STM32F746NGH6/497-15818-ND/5287177; Package: 216-TFBGA; ComponentType: IC microcontroller; Temperature: -40...+85°C; CoreProcessor: Cortex-M7
footprint 216-TFBGA (pitch 0.8mm)
part A pins: A1 PE4 (io), A2 PE3 (io), A3 PE2 (io), A5 PE1 (io), A6 PE0 (io), A7 PB8 (io), A8 PB5 (io), A9 PB4 (io), A10 PB3 (io), A11 PD7 (io), A12 PC12 (io), A13 PA15 (io), B1 PE5 (io), B2 PE6 (io), B4 PB9 (io), B5 PB7 (io), B6 PB6 (io), B11 PD6 (io), B12 PD0 (io), B13 PC11 (io), B14 PC10 (io), B15 PA12 (io), C10 PD5 (io), C11 PD3 (io), C12 PD1 (io), C15 PA11 (io), D1 PC13 (io), D11 PD4 (io), D12 PD2 (io), D13 PH15 (io), D15 PA10 (io), E1 PC14 (io), E12 PH13 (io), E13 PH14 (io), E15 PA9 (io), F1 PC15 (io), F14 PC9 (io), F15 PA8 (io), G14 PC8 (io), G15 PC7 (io), H4 PH4 (io), H15 PC6 (io), J3 PH5 (io), J4 PH3 (io), K4 PH2 (io), K13 PD15 (io), K14 PB13 (io), K15 PD10 (io), L4 PC3 (io), L12 PD14 (io), L13 PB12 (io), L14 PD9 (io), L15 PD8 (io), M2 PC0 (io), M3 PC1 (io), M4 PC2 (io), M5 PB2 (io), M10 PD12 (io), M11 PD13 (io), M15 PH12 (io), N2 PA1 (io), N3 PA0 (io), N4 PA4 (io), N5 PC4 (io), N9 PE8 (io), N10 PD11 (io), N13 PH7 (io), N14 PH9 (io), N15 PH11 (io), P2 PA2 (io), P3 PA6 (io), P4 PA5 (io), P5 PC5 (io), P9 PE9 (io), P10 PE11 (io), P11 PE14 (io), P12 PB10 (io), P13 PH6 (io), P14 PH8 (io), P15 PH10 (io), R2 PA3 (io), R3 PA7 (io), R4 PB1 (io), R5 PB0 (io), R8 PE7 (io), R9 PE10 (io), R10 PE12 (io), R11 PE15 (io), R12 PE13 (io), R13 PB11 (io), R14 PB14 (io), R15 PB15 (io)
part B pins: A4 PG14 (io), A14 SWCLK (io), A15 SWDIO (io), B3 PG13 (io), B7 PG15 (io), B8 PG11 (io), B9 PJ13 (io), B10 PJ12 (io), C2 PI8 (io), C3 PI4 (io), C4 PK7 (io), C5 PK6 (io), C6 PK5 (io), C7 PG12 (io), C8 PG10 (io), C9 PJ14 (io), C13 PI3 (io), C14 PI2 (io), D2 PF0 (io), D3 PI5 (io), D4 PI7 (io), D5 PI10 (io), D6 PI6 (io), D7 PK4 (io), D8 PK3 (io), D9 PG9 (io), D10 PJ15 (io), D14 PI1 (io), E2 PF1 (io), E3 PI12 (io), E4 PI9 (io), E6 BOOT0 (in), E14 PI0 (io), F3 PI11 (io), F12 PK1 (io), F13 PK2 (io), G1 OSC-IN (io), G2 PF2 (io), G3 PI13 (io), G4 PI15 (io), G12 PJ11 (io), G13 PK0 (io), H1 OSC-OUT (io), H2 PF3 (io), H3 PI14 (io), H12 PJ8 (io), H13 PJ10 (io), H14 PG8 (io), J1 NRST (in), J2 PF4 (io), J12 PJ7 (io), J13 PJ9 (io), J14 PG7 (io), J15 PG6 (io), K1 PF7 (io), K2 PF6 (io), K3 PF5 (io), K12 PJ6 (io), L1 PF10 (io), L2 PF9 (io), L3 PF8 (io), M6 PF12 (io), M7 PG1 (io), M8 PF15 (io), M9 PJ4 (io), M12 PG3 (io), M13 PG2 (io), M14 PJ5 (io), N6 PF13 (io), N7 PG0 (io), N8 PJ3 (io), N11 PG5 (io), N12 PG4 (io), P6 PF14 (io), P7 PJ2 (io), P8 PF11 (io), R6 PJ0 (io), R7 PJ1 (io)
part C pins: C1 VBAT (power), E5 PDR-ON (power), E7 VDD (power), E8 VDD (power), E9 VDD (power), E10 VDD (power), E11 VCAP2 (power), F2 VSS (power), F4 VDD (power), F5 VDD (power), F6 VSS (power), F7 VSS (power), F8 VSS (power), F9 VSS (power), F10 VSS (power), F11 VDD (power), G5 VDD (power), G6 VSS (power), G10 VSS (power), G11 VDDUSB (power), H5 VDD (power), H6 VSS (power), H10 VSS (power), H11 VDD (power), J5 VDD (power), J6 VSS (power), J10 VSS (power), J11 VDD (power), K5 VDD (power), K6 VSS (power), K7 VSS (power), K8 VSS (power), K9 VSS (power), K10 VSS (power), K11 VDD (power), L5 BYPASS (power), L6 VSS (power), L7 VDD (power), L8 VDD (power), L9 VDD (power), L10 VDD (power), L11 VCAP1 (power), M1 VSSA (power), N1 VREF- (power), P1 VREF+ (power), R1 VDDA (power)

## STM32F767VGT6
designator D?  PartNumber: STM32F767VGT6
Cortex-M7; Manufacturer: STMicroelectronics; ValueManufacturerPartNumber: IC microcontroller, 32-Bit, Cortex-M7, 216MHz, 1024KB, 512KB, 1.7...3.6V, -40...+85°C, 100-LQFP; Supply: 1.7...3.6V; Speed: 216MHz; CoreSize: 32-Bit; MemoryROM: 1024KB; MemoryRAM: 512KB; HelpURL: https://www.digikey.com/products/en?keywords=STM32F767VGT6; Package: 100-LQFP; ComponentType: IC microcontroller; Temperature: -40...+85°C; CoreProcessor: Cortex-M7
footprint 100-LQFP (Thin QFP, 100-Leads, Body 14x14mm, Pitch 0.5mm, IPC Medium Density)
part A pins: 1 PE2 (io), 2 PE3 (io), 3 PE4 (io), 4 PE5 (io), 5 PE6 (io), 7 PC13 (io), 8 OSC32-IN (in), 9 OSC32-OUT (out), 12 OSC-IN (in), 13 OSC-OUT (out), 14 NRST (in), 15 PC0 (io), 16 PC1 (io), 17 PC2 (io), 18 PC3 (io), 22 PA0 (io), 23 PA1 (io), 24 PA2 (io), 25 PA3 (io), 28 PA4 (io), 29 PA5 (io), 30 PA6 (io), 31 PA7 (io), 32 PC4 (io), 33 PC5 (io), 34 PB0 (io), 35 PB1 (io), 36 PB2 (io), 37 PE7 (io), 38 PE8 (io), 39 PE9 (io), 40 PE10 (io), 41 PE11 (io), 42 PE12 (io), 43 PE13 (io), 44 PE14 (io), 45 PE15 (io), 46 PB10 (io), 47 PB11 (io), 51 PB12 (io), 52 PB13 (io), 53 PB14 (io), 54 PB15 (io), 55 PD8 (io), 56 PD9 (io), 57 PD10 (io), 58 PD11 (io), 59 PD12 (io), 60 PD13 (io), 61 PD14 (io), 62 PD15 (io), 63 PC6 (io), 64 PC7 (io), 65 PC8 (io), 66 PC9 (io), 67 PA8 (io), 68 PA9 (io), 69 PA10 (io), 70 PA11 (io), 71 PA12 (io), 72 SWDIO, 76 SWCLK, 77 PA15 (io), 78 PC10 (io), 79 PC11 (io), 80 PC12 (io), 81 PD0 (io), 82 PD1 (io), 83 PD2 (io), 84 PD3 (io), 85 PD4 (io), 86 PD5 (io), 87 PD6 (io), 88 PD7 (io), 89 PB3 (io), 90 PB4 (io), 91 PB5 (io), 92 PB6 (io), 93 PB7 (io), 94 BOOT0 (in), 95 PB8 (io), 96 PB9 (io), 97 PE0 (io), 98 PE1 (io)
part B pins: 6 VBAT (power), 10 VSS (power), 11 VDD (power), 19 VSSA (power), 20 VREF (power), 21 VDDA (power), 26 VSS (power), 27 VDD (power), 48 VCAP1 (power), 49 VSS (power), 50 VDD (power), 73 VCAP2 (power), 74 VSS (power), 75 VDD (power), 99 VSS (power), 100 VDD (power)

## STM32G474CEU6
designator D?  PartNumber: STM32G474CEU6
Cortex-M4; Manufacturer: STMicroelectronics; ValueManufacturerPartNumber: IC microcontroller, 32-Bit, Cortex-M4, 170MHz, 512KB, 128KB, 1.71...3.6V, -40...+85°C, 48-UFQFPN; Supply: 1.71...3.6V; Speed: 170MHz; CoreSize: 32-Bit; MemoryROM: 512KB; MemoryRAM: 128KB; HelpURL: https://ru.mouser.com/ProductDetail/STMicroelectronics/STM32G474CEU6?qs=sGAEpiMZZMuoKKEcg8mMKJ29ob8kKavQsukFrZddY%2Fk31zdo5m%252BiYA%3D%3D; Package: 48-UFQFPN; ComponentType: IC microcontroller; Temperature: -40...+85°C; CoreProcessor: Cortex-M4
footprint 48-QFN (7x7) (7x7 mm, pitch 0.5 mm, power pad)
pins: 0 GND, 1 VBAT, 2 PC13 (io), 3 PC14/OSC32IN (io), 4 PC15/OSC32OUT (io), 5 PF0/OSCIN (io), 6 PF1/OSCOUT (io), 7 PG10/NRST (io), 8 PA0 (io), 9 PA1 (io), 10 PA2 (io), 11 PA3 (io), 12 PA4 (io), 13 PA5 (io), 14 PA6 (io), 15 PA7 (io), 16 PC4 (io), 17 PB0 (io), 18 PB1 (io), 19 PB2 (io), 20 VREF+, 21 VDDA, 22 PB10 (io), 23 VDD, 24 PB11 (io), 25 PB12 (io), 26 PB13 (io), 27 PB14 (io), 28 PB15 (io), 29 PC6 (io), 30 PA8 (io), 31 PA9 (io), 32 PA10 (io), 33 PA11 (io), 34 PA12 (io), 35 VDD, 36 PA13/SWDIO (io), 37 PA14/SWCLK (io), 38 PA15 (io), 39 PC10 (io), 40 PC11 (io), 41 PB3 (io), 42 PB4 (io), 43 PB5 (io), 44 PB6 (io), 45 PB7 (io), 46 PB8/BOOT0 (io), 47 PB9 (io), 48 VDD

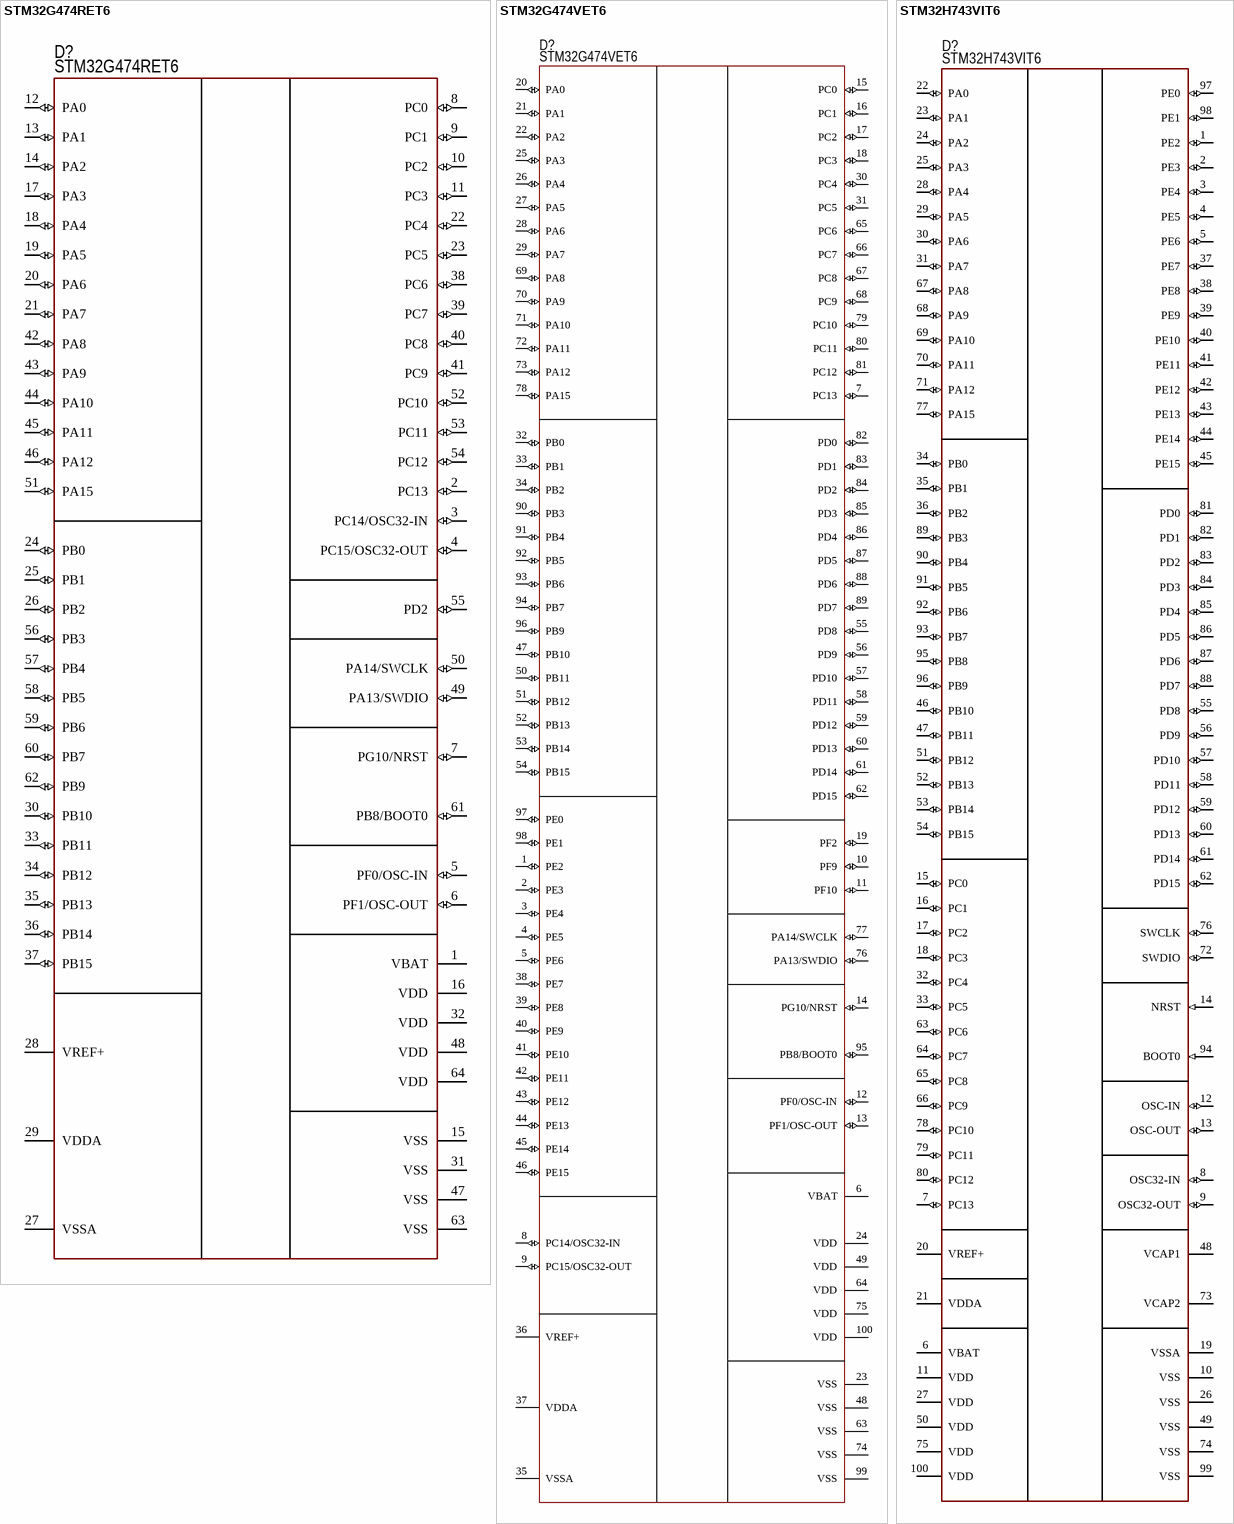
[diagram p7: symbols STM32G474RET6 to STM32H743VIT6]

## STM32G474RET6
designator D?  PartNumber: STM32G474RET6
Cortex-M4; Manufacturer: STMicroelectronics; ValueManufacturerPartNumber: IC microcontroller, 32-Bit, Cortex-M4, 170MHz, 512KB, 128KB, 1.71...3.6V, -40...+85°C, 64-LQFP; Supply: 1.71...3.6V; Speed: 170MHz; CoreSize: 32-Bit; MemoryROM: 512KB; MemoryRAM: 128KB; HelpURL: https://ru.mouser.com/ProductDetail/STMicroelectronics/STM32G474RET6?qs=sGAEpiMZZMuoKKEcg8mMKJ29ob8kKavQ9P%2FqSgFiHIM%252Bu3HfOPgZJg%3D%3D; Package: 64-LQFP; ComponentType: IC microcontroller; Temperature: -40...+85°C; CoreProcessor: Cortex-M4
footprint 64-LQFP (Thin QFP, 64-Leads, Body 10x10mm, Pitch 0.5mm, IPC Medium Density)
pins: 1 VBAT, 2 PC13 (io), 3 PC14/OSC32-IN (io), 4 PC15/OSC32-OUT (io), 5 PF0/OSC-IN (io), 6 PF1/OSC-OUT (io), 7 PG10/NRST (io), 8 PC0 (io), 9 PC1 (io), 10 PC2 (io), 11 PC3 (io), 12 PA0 (io), 13 PA1 (io), 14 PA2 (io), 15 VSS, 16 VDD, 17 PA3 (io), 18 PA4 (io), 19 PA5 (io), 20 PA6 (io), 21 PA7 (io), 22 PC4 (io), 23 PC5 (io), 24 PB0 (io), 25 PB1 (io), 26 PB2 (io), 27 VSSA, 28 VREF+, 29 VDDA, 30 PB10 (io), 31 VSS, 32 VDD, 33 PB11 (io), 34 PB12 (io), 35 PB13 (io), 36 PB14 (io), 37 PB15 (io), 38 PC6 (io), 39 PC7 (io), 40 PC8 (io), 41 PC9 (io), 42 PA8 (io), 43 PA9 (io), 44 PA10 (io), 45 PA11 (io), 46 PA12 (io), 47 VSS, 48 VDD, 49 PA13/SWDIO (io), 50 PA14/SWCLK (io), 51 PA15 (io), 52 PC10 (io), 53 PC11 (io), 54 PC12 (io), 55 PD2 (io), 56 PB3 (io), 57 PB4 (io), 58 PB5 (io), 59 PB6 (io), 60 PB7 (io), 61 PB8/BOOT0 (io), 62 PB9 (io), 63 VSS, 64 VDD

## STM32G474VET6
designator D?  PartNumber: STM32G474VET6
Cortex-M4; Manufacturer: STMicroelectronics; ValueManufacturerPartNumber: IC microcontroller, 32-Bit, Cortex-M4, 170MHz, 512KB, 128KB, 1.71...3.6V, -40...+85°C, LQFP-100; Supply: 1.71...3.6V; Speed: 170MHz; CoreSize: 32-Bit; MemoryROM: 512KB; MemoryRAM: 128KB; HelpURL: https://ru.mouser.com/ProductDetail/STMicroelectronics/STM32G474VET6?qs=sGAEpiMZZMuoKKEcg8mMKJ29ob8kKavQypc1s7YBx7CUDd%252BMTMV0Hg%3D%3D; Package: LQFP-100; ComponentType: IC microcontroller; Temperature: -40...+85°C; CoreProcessor: Cortex-M4
footprint 100-LQFP (Thin QFP, 100-Leads, Body 14x14mm, Pitch 0.5mm, IPC Medium Density)
pins: 1 PE2 (io), 2 PE3 (io), 3 PE4 (io), 4 PE5 (io), 5 PE6 (io), 6 VBAT, 7 PC13 (io), 8 PC14/OSC32-IN (io), 9 PC15/OSC32-OUT (io), 10 PF9 (io), 11 PF10 (io), 12 PF0/OSC-IN (io), 13 PF1/OSC-OUT (io), 14 PG10/NRST (io), 15 PC0 (io), 16 PC1 (io), 17 PC2 (io), 18 PC3 (io), 19 PF2 (io), 20 PA0 (io), 21 PA1 (io), 22 PA2 (io), 23 VSS, 24 VDD, 25 PA3 (io), 26 PA4 (io), 27 PA5 (io), 28 PA6 (io), 29 PA7 (io), 30 PC4 (io), 31 PC5 (io), 32 PB0 (io), 33 PB1 (io), 34 PB2 (io), 35 VSSA, 36 VREF+, 37 VDDA, 38 PE7 (io), 39 PE8 (io), 40 PE9 (io), 41 PE10 (io), 42 PE11 (io), 43 PE12 (io), 44 PE13 (io), 45 PE14 (io), 46 PE15 (io), 47 PB10 (io), 48 VSS, 49 VDD, 50 PB11 (io), 51 PB12 (io), 52 PB13 (io), 53 PB14 (io), 54 PB15 (io), 55 PD8 (io), 56 PD9 (io), 57 PD10 (io), 58 PD11 (io), 59 PD12 (io), 60 PD13 (io), 61 PD14 (io), 62 PD15 (io), 63 VSS, 64 VDD, 65 PC6 (io), 66 PC7 (io), 67 PC8 (io), 68 PC9 (io), 69 PA8 (io), 70 PA9 (io), 71 PA10 (io), 72 PA11 (io), 73 PA12 (io), 74 VSS, 75 VDD, 76 PA13/SWDIO (io), 77 PA14/SWCLK (io), 78 PA15 (io), 79 PC10 (io), 80 PC11 (io), 81 PC12 (io), 82 PD0 (io), 83 PD1 (io), 84 PD2 (io), 85 PD3 (io), 86 PD4 (io), 87 PD5 (io), 88 PD6 (io), 89 PD7 (io), 90 PB3 (io), 91 PB4 (io), 92 PB5 (io), 93 PB6 (io), 94 PB7 (io), 95 PB8/BOOT0 (io), 96 PB9 (io), 97 PE0 (io), 98 PE1 (io), 99 VSS, 100 VDD

## STM32H743VIT6
designator D?  PartNumber: STM32H743VIT6
Cortex-M7; Manufacturer: STMicroelectronics; ValueManufacturerPartNumber: IC microcontroller, 32-Bit, Cortex-M7, 400MHz, 2048KB, 1024KB, 1.71...3.6V, -40...+85°C, 100-LQFP; Supply: 1.71...3.6V; Speed: 400MHz; CoreSize: 32-Bit; MemoryROM: 2048KB; MemoryRAM: 1024KB; HelpURL: https://www.digikey.com/products/en?keywords=STM32H743VIT6; Package: 100-LQFP; ComponentType: IC microcontroller; Temperature: -40...+85°C; CoreProcessor: Cortex-M7
footprint 100-LQFP (Thin QFP, 100-Leads, Body 14x14mm, Pitch 0.5mm, IPC Medium Density)
pins: 1 PE2 (io), 2 PE3 (io), 3 PE4 (io), 4 PE5 (io), 5 PE6 (io), 6 VBAT, 7 PC13 (io), 8 OSC32-IN (io), 9 OSC32-OUT (io), 10 VSS, 11 VDD, 12 OSC-IN (io), 13 OSC-OUT (io), 14 NRST (in), 15 PC0 (io), 16 PC1 (io), 17 PC2 (io), 18 PC3 (io), 19 VSSA, 20 VREF+, 21 VDDA, 22 PA0 (io), 23 PA1 (io), 24 PA2 (io), 25 PA3 (io), 26 VSS, 27 VDD, 28 PA4 (io), 29 PA5 (io), 30 PA6 (io), 31 PA7 (io), 32 PC4 (io), 33 PC5 (io), 34 PB0 (io), 35 PB1 (io), 36 PB2 (io), 37 PE7 (io), 38 PE8 (io), 39 PE9 (io), 40 PE10 (io), 41 PE11 (io), 42 PE12 (io), 43 PE13 (io), 44 PE14 (io), 45 PE15 (io), 46 PB10 (io), 47 PB11 (io), 48 VCAP1, 49 VSS, 50 VDD, 51 PB12 (io), 52 PB13 (io), 53 PB14 (io), 54 PB15 (io), 55 PD8 (io), 56 PD9 (io), 57 PD10 (io), 58 PD11 (io), 59 PD12 (io), 60 PD13 (io), 61 PD14 (io), 62 PD15 (io), 63 PC6 (io), 64 PC7 (io), 65 PC8 (io), 66 PC9 (io), 67 PA8 (io), 68 PA9 (io), 69 PA10 (io), 70 PA11 (io), 71 PA12 (io), 72 SWDIO (io), 73 VCAP2, 74 VSS, 75 VDD, 76 SWCLK (io), 77 PA15 (io), 78 PC10 (io), 79 PC11 (io), 80 PC12 (io), 81 PD0 (io), 82 PD1 (io), 83 PD2 (io), 84 PD3 (io), 85 PD4 (io), 86 PD5 (io), 87 PD6 (io), 88 PD7 (io), 89 PB3 (io), 90 PB4 (io), 91 PB5 (io), 92 PB6 (io), 93 PB7 (io), 94 BOOT0 (in), 95 PB8 (io), 96 PB9 (io), 97 PE0 (io), 98 PE1 (io), 99 VSS, 100 VDD

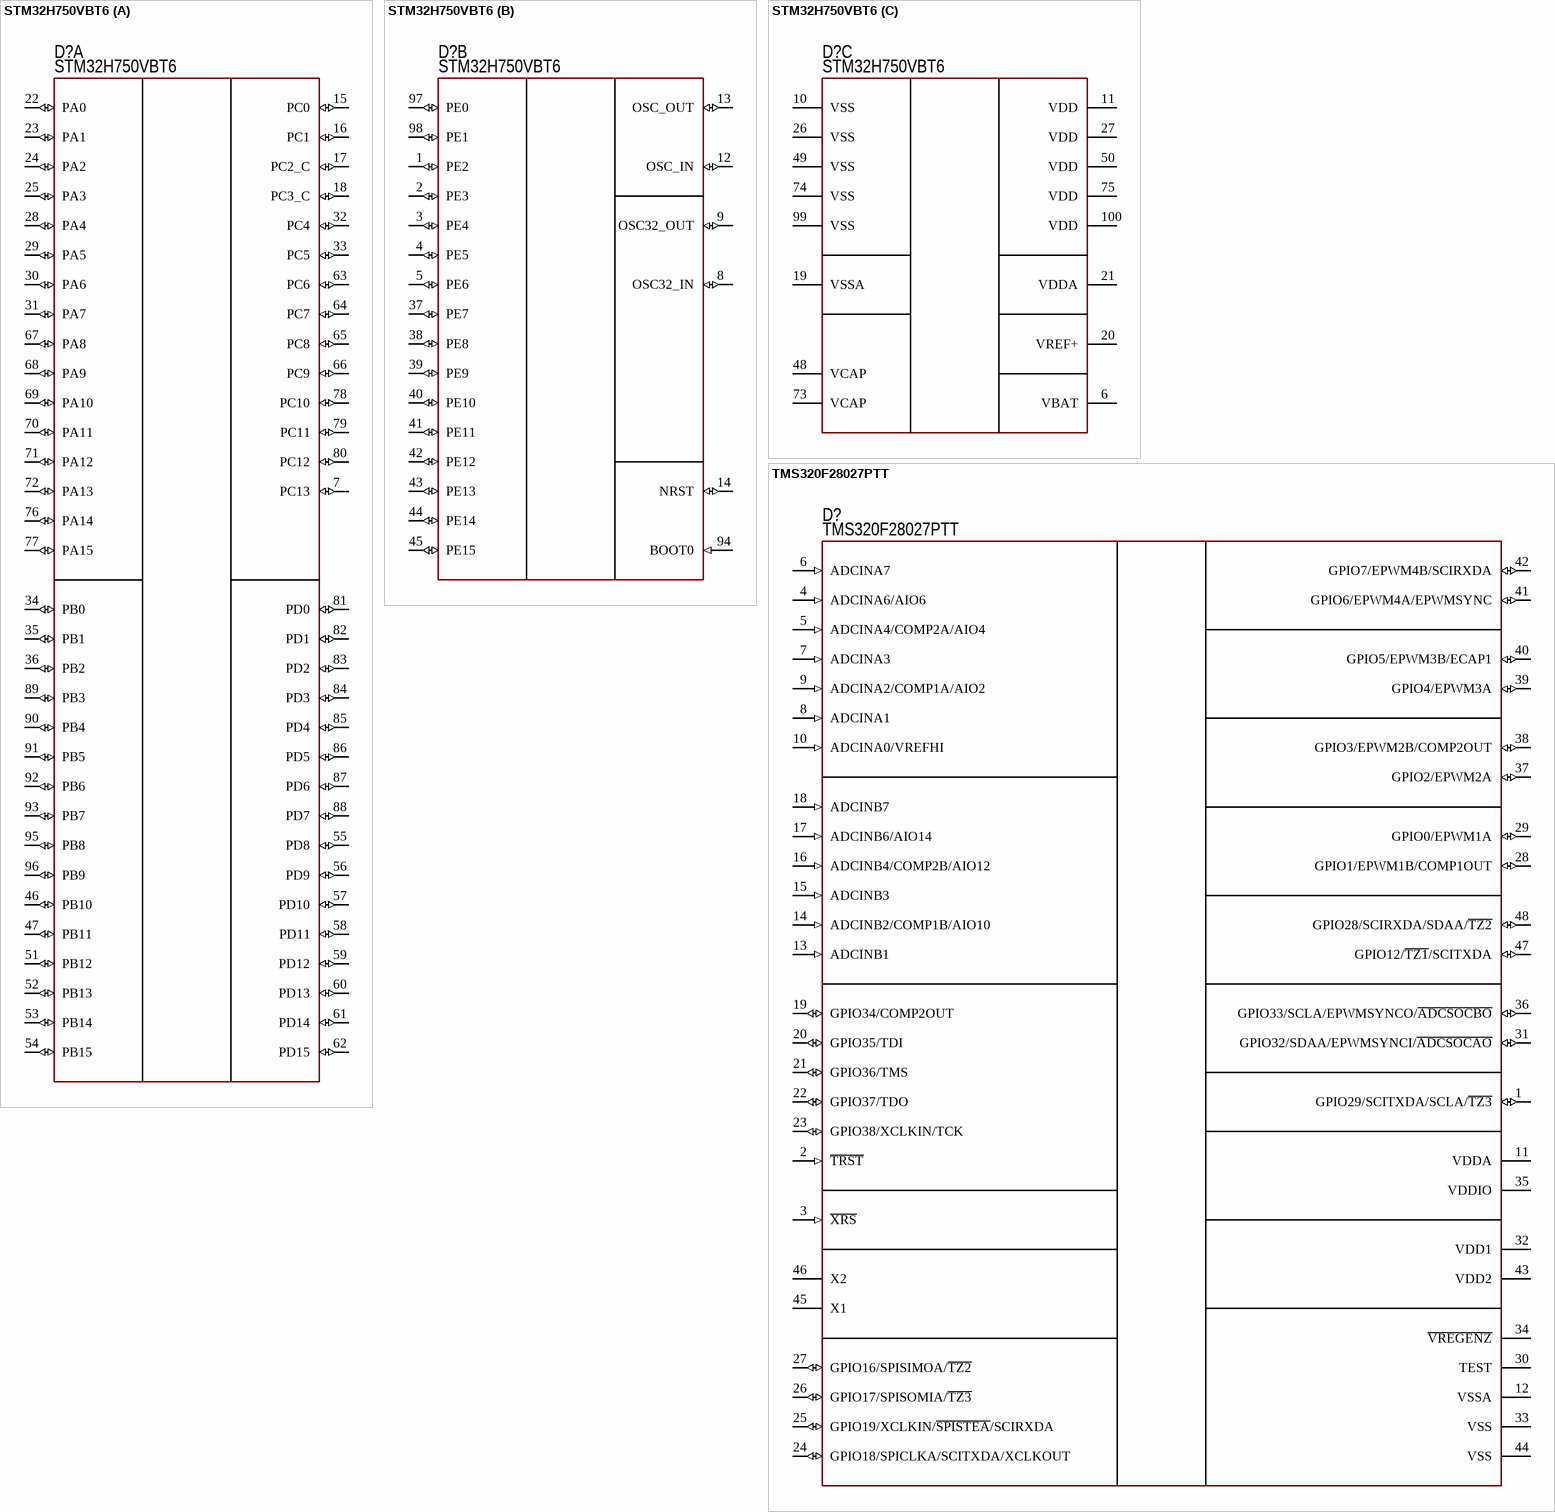
[diagram p8: symbols STM32H750VBT6 to TMS320F28027PTT]

## STM32H750VBT6
designator D?  PartNumber: STM32H750VBT6
Cortex-M7; Manufacturer: STMicroelectronics; ValueManufacturerPartNumber: IC microcontroller, 32-Bit, Cortex-M7, 480MHz, 128KB, 192KB, 2...3.6V, -40...+85°C, 100-LQFP; Supply: 2...3.6V; Speed: 480MHz; CoreSize: 32-Bit; MemoryROM: 128KB; MemoryRAM: 192KB; HelpURL: https://www.digikey.com/product-detail/en/stmicroelectronics/STM32F103C8T6TR/497-17666-1-ND/7804402; Package: 100-LQFP; ComponentType: IC microcontroller; Temperature: -40...+85°C; CoreProcessor: Cortex-M7
footprint 100-LQFP (Thin QFP, 100-Leads, Body 14x14mm, Pitch 0.5mm, IPC Medium Density)
part A pins: 7 PC13 (io), 15 PC0 (io), 16 PC1 (io), 17 PC2_C (io), 18 PC3_C (io), 22 PA0 (io), 23 PA1 (io), 24 PA2 (io), 25 PA3 (io), 28 PA4 (io), 29 PA5 (io), 30 PA6 (io), 31 PA7 (io), 32 PC4 (io), 33 PC5 (io), 34 PB0 (io), 35 PB1 (io), 36 PB2 (io), 46 PB10 (io), 47 PB11 (io), 51 PB12 (io), 52 PB13 (io), 53 PB14 (io), 54 PB15 (io), 55 PD8 (io), 56 PD9 (io), 57 PD10 (io), 58 PD11 (io), 59 PD12 (io), 60 PD13 (io), 61 PD14 (io), 62 PD15 (io), 63 PC6 (io), 64 PC7 (io), 65 PC8 (io), 66 PC9 (io), 67 PA8 (io), 68 PA9 (io), 69 PA10 (io), 70 PA11 (io), 71 PA12 (io), 72 PA13 (io) "JTMS/SWDIO", 76 PA14 (io) "JTCK/SWCLK", 77 PA15 (io) "JTDI", 78 PC10 (io), 79 PC11 (io), 80 PC12 (io), 81 PD0 (io), 82 PD1 (io), 83 PD2 (io), 84 PD3 (io), 85 PD4 (io), 86 PD5 (io), 87 PD6 (io), 88 PD7 (io), 89 PB3 (io) "JTDO/TRACESWO", 90 PB4 (io) "NJTRST", 91 PB5 (io), 92 PB6 (io), 93 PB7 (io), 95 PB8 (io), 96 PB9 (io)
part B pins: 1 PE2 (io), 2 PE3 (io), 3 PE4 (io), 4 PE5 (io), 5 PE6 (io), 8 OSC32_IN (io), 9 OSC32_OUT (io), 12 OSC_IN (io), 13 OSC_OUT (io), 14 NRST (io), 37 PE7 (io), 38 PE8 (io), 39 PE9 (io), 40 PE10 (io), 41 PE11 (io), 42 PE12 (io), 43 PE13 (io), 44 PE14 (io), 45 PE15 (io), 94 BOOT0 (in), 97 PE0 (io), 98 PE1 (io)
part C pins: 6 VBAT (power), 10 VSS (power), 11 VDD (power), 19 VSSA (power), 20 VREF+ (power), 21 VDDA (power), 26 VSS (power), 27 VDD (power), 48 VCAP (power), 49 VSS (power), 50 VDD (power), 73 VCAP (power), 74 VSS (power), 75 VDD (power), 99 VSS (power), 100 VDD (power)

## TMS320F28027PTT
designator D?  PartNumber: TMS320F28027PTT
C28 Piccolo; Manufacturer: Texas Instruments; ValueManufacturerPartNumber: IC motor control, 32-Bit, C28 Piccolo, 60MHz, 64KB, 12KB, 1.71...3.6V, -40...+105°C, 48-LQFP; Supply: 1.71...3.6V; Speed: 60MHz; CoreSize: 32-Bit; MemoryROM: 64KB; MemoryRAM: 12KB; HelpURL: https://www.digikey.com/products/en?keywords=TMS320F28027PTT; Package: 48-LQFP; ComponentType: IC motor control; Temperature: -40...+105°C; CoreProcessor: C28 Piccolo
footprint 48-LQFP (QFP, 48-Leads, Body 7x7mm, Pitch 0.5mm, IPC Medium Density)
pins: 1 GPIO29/SCITXDA/SCLA/~{TZ3} (io), 2 ~{TRST} (in), 3 ~{XRS} (in), 4 ADCINA6/AIO6 (in), 5 ADCINA4/COMP2A/AIO4 (in), 6 ADCINA7 (in), 7 ADCINA3 (in), 8 ADCINA1 (in), 9 ADCINA2/COMP1A/AIO2 (in), 10 ADCINA0/VREFHI (in), 11 VDDA, 12 VSSA, 13 ADCINB1 (in), 14 ADCINB2/COMP1B/AIO10 (in), 15 ADCINB3 (in), 16 ADCINB4/COMP2B/AIO12 (in), 17 ADCINB6/AIO14 (in), 18 ADCINB7 (in), 19 GPIO34/COMP2OUT (io), 20 GPIO35/TDI (io), 21 GPIO36/TMS (io), 22 GPIO37/TDO (io), 23 GPIO38/XCLKIN/TCK (io), 24 GPIO18/SPICLKA/SCITXDA/XCLKOUT (io), 25 GPIO19/XCLKIN/~{SPISTEA}/SCIRXDA (io), 26 GPIO17/SPISOMIA/~{TZ3} (io), 27 GPIO16/SPISIMOA/~{TZ2} (io), 28 GPIO1/EPWM1B/COMP1OUT (io), 29 GPIO0/EPWM1A (io), 30 TEST, 31 GPIO32/SDAA/EPWMSYNCI/~{ADCSOCAO} (io), 32 VDD1, 33 VSS, 34 ~{VREGENZ}, 35 VDDIO, 36 GPIO33/SCLA/EPWMSYNCO/~{ADCSOCBO} (io), 37 GPIO2/EPWM2A (io), 38 GPIO3/EPWM2B/COMP2OUT (io), 39 GPIO4/EPWM3A (io), 40 GPIO5/EPWM3B/ECAP1 (io), 41 GPIO6/EPWM4A/EPWMSYNC (io), 42 GPIO7/EPWM4B/SCIRXDA (io), 43 VDD2, 44 VSS, 45 X1, 46 X2, 47 GPIO12/~{TZ1}/SCITXDA (io), 48 GPIO28/SCIRXDA/SDAA/~{TZ2} (io)